# Altium schematic symbol library IC_WSYN.SchLib: 152 symbols (part 1 of 2)
Pins are listed as number, name and electrical type; pins without a type are passive.

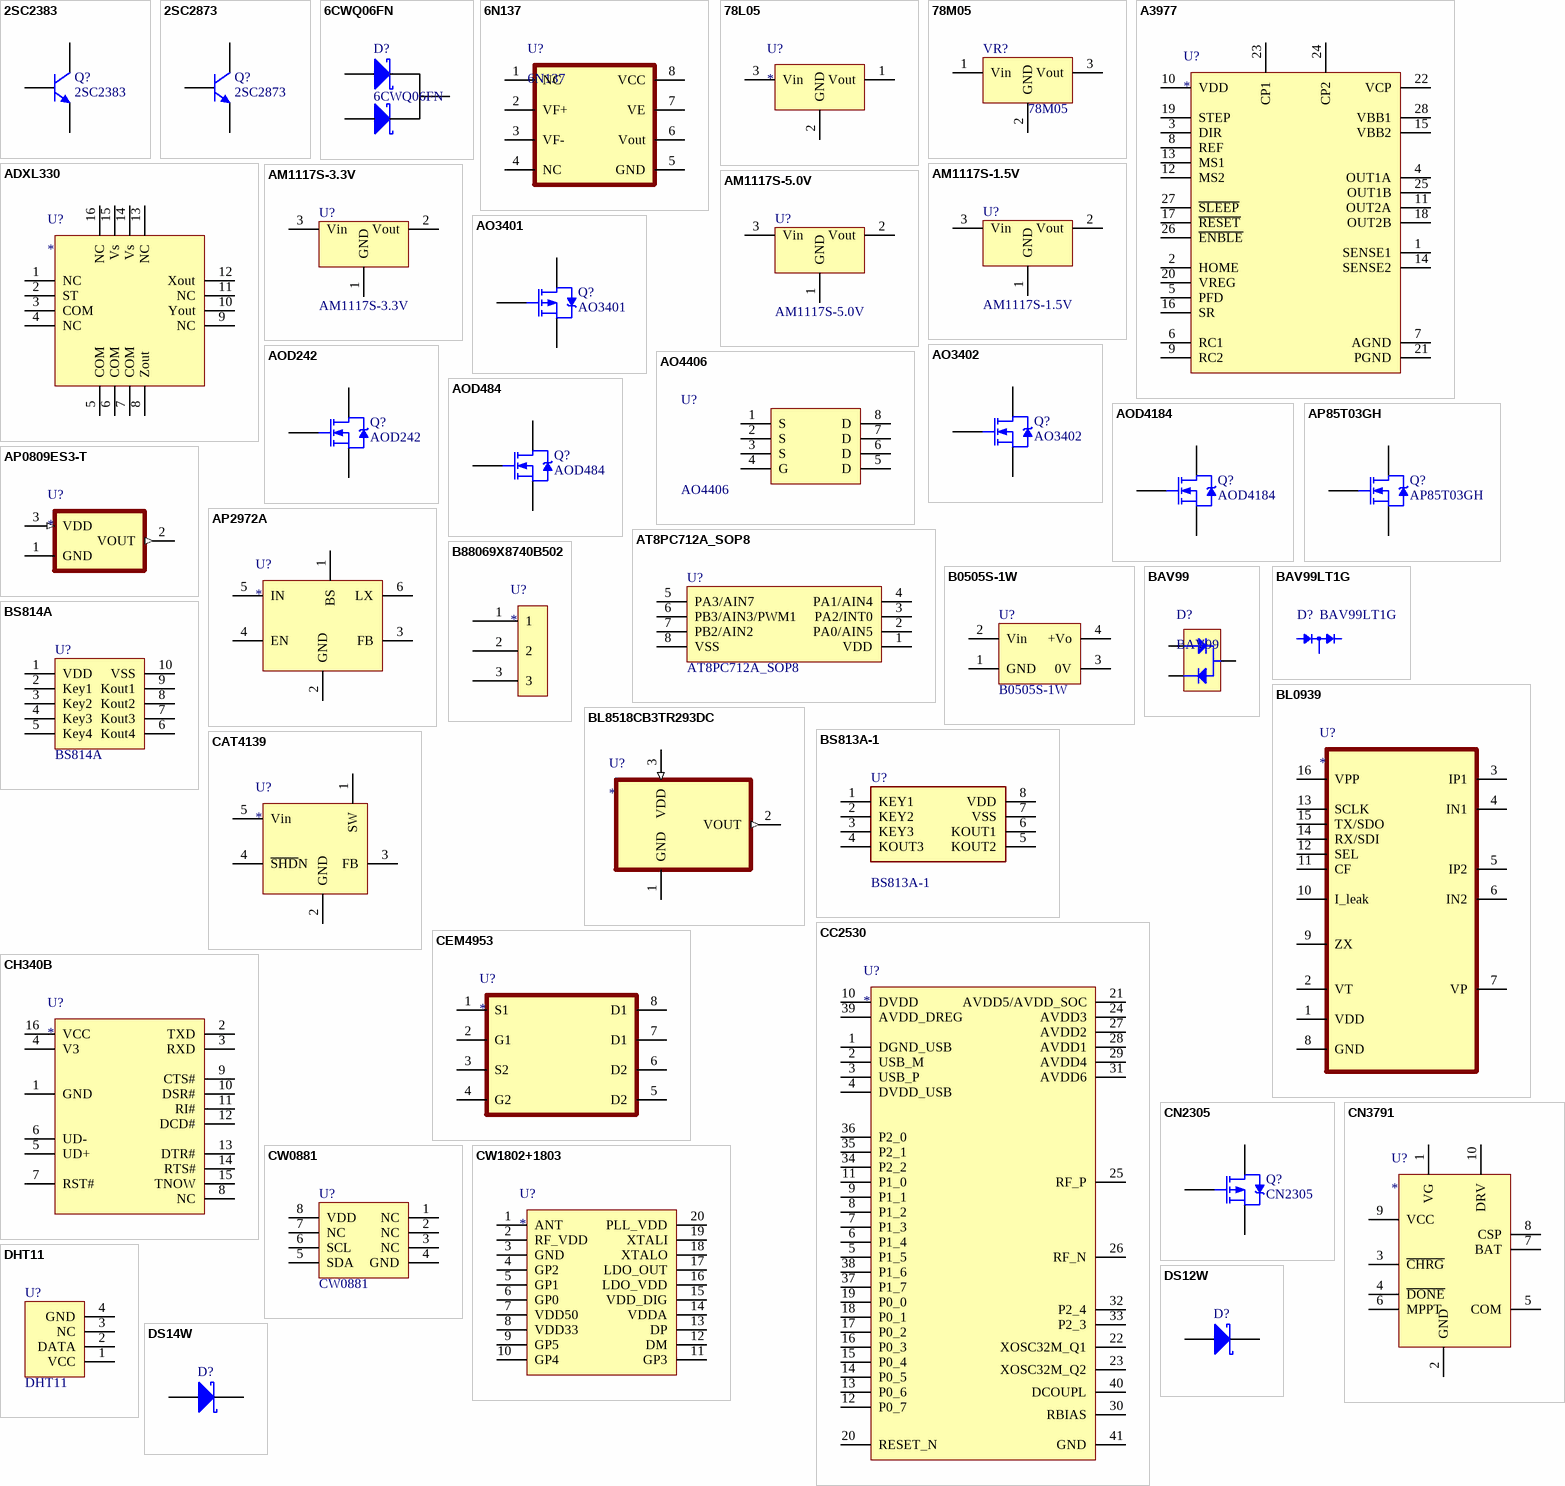
[diagram p0: symbols 2SC2383 to DS14W]

## 2SC2383
designator Q?
footprint SOT-89 (SOT-89; Body 4.6 x 4.25 mm, inc. leads (LxW max))
pins: 1 B, 2 C, 3 E

## 2SC2873
designator Q?
footprint SOT-89 (SOT-89; Body 4.6 x 4.25 mm, inc. leads (LxW max))
pins: 1 B, 2 C, 3 E

## 6CWQ06FN
designator D?
6CWQ06FN,SCHOTTKY RECTIFIER
footprint TO-252AA
pins: 1 A, 2 K, 3 A

## 6N137
designator U?
光耦 高速
footprint 6N137
pins: 1 NC, 2 VF+, 3 VF-, 4 NC, 5 GND, 6 Vout, 7 VE, 8 VCC (power)

## 78L05
designator U?
78L05,三端稳压器; datasheet: http://www.mouser.com/ds/2/389/CD00000446-355303.pdf
footprint SOT-89 (SOT-89; Body 4.6 x 4.25 mm, inc. leads (LxW max))
pins: 1 Vout, 2 GND, 3 Vin

## 78M05
designator VR?
Voltage Regulator
footprint TO-252
pins: 1 Vin, 2 GND, 3 Vout

## A3977
designator U?
Microstepping DMOS Driver with Translator
footprint SOP65P640X120-29N
pins: 1 SENSE1, 2 HOME, 3 DIR, 4 OUT1A, 5 PFD, 6 RC1, 7 AGND, 8 REF, 9 RC2, 10 VDD, 11 OUT2A, 12 MS2, 13 MS1, 14 SENSE2, 15 VBB2, 16 SR, 17 ~{RESET}, 18 OUT2B, 19 STEP, 20 VREG, 21 PGND, 22 VCP, 23 CP1, 24 CP2, 25 OUT1B, 26 ~{ENBLE}, 27 ~{SLEEP}, 28 VBB1

## ADXL330
designator U?
MEMS加速度计
footprint LFCSP-16 (4x4mm) (LFCSP-16 package, Body size 4x4mm, Lead pitch 0.65mm)
pins: 1 NC, 2 ST, 3 COM, 4 NC, 5 COM, 6 COM, 7 COM, 8 Zout, 9 NC, 10 Yout, 11 NC, 12 Xout, 13 NC, 14 Vs, 15 Vs, 16 NC

## AM1117S-1.5V
designator U?
footprint SOT223-4L
pins: 1 GND, 2 Vout, 3 Vin

## AM1117S-3.3V
designator U?
AM1117S-3.3V,SOT223-4L,LDO稳压
footprint SOT223-4L
pins: 1 GND, 2 Vout, 3 Vin

## AM1117S-5.0V
designator U?
footprint SOT223-4L
pins: 1 GND, 2 Vout, 3 Vin

## AO3401
designator Q?
P-Channel Power MOSFET; Note: Pin 4 not drawn and electrically connected to Pin 2.; Published: 8-Jun-2000; LatestRevisionDate: 17-Jul-2002; LatestRevisionNote: Re-released for DXP Platform.; DatasheetVersion: PD-9.390D; PackageVersion: Feb-1997; PackageReference: TO-220AB; Publisher: Altium Limited; PackageDescription: TO, Thru-Hole, Vertical, Heatsink Mounted; 3 In-Line Leads; Pitch 2.54 mm; ComponentLink1Description: Manufacturer Link; ComponentLink1URL: http://www.irf.com/
footprint SOT23
pins: 1 G, 2 S, 3 D

## AO3402
designator Q?
30V N-Channel MOSFET; PackageReference: SOT23; ComponentLink1Description: Manufacturer Link; ComponentLink1URL: http://www.aosmd.com/; ComponentLink2Description: Datasheet; ComponentLink2URL: http://www.aosmd.com/res/data_sheets/AO3402.pdf
footprint SOT23
pins: 1 G, 2 S, 3 D

## AO4406
designator U?
N-Channel?Enhancement?Mode?Field?Effect?Transistor; ComponentLink1URL: http://www.chip-wise.com
footprint SOIC8_N
pins: 1 S, 2 S, 3 S, 4 G, 5 D, 6 D, 7 D, 8 D

## AOD242
designator Q?
40V N-Channel MOSFET; PackageReference: TO-252AA; ComponentLink1Description: Manufacturer Link; ComponentLink1URL: http://aosmd.com/pdfs/datasheet/AOD484.pdf; ComponentLink2Description: Datasheet
footprint TO-252AA
pins: 1 G, 2 D, 3 S

## AOD484
designator Q?
30V N-Channel MOSFET; PackageReference: TO-252AA; ComponentLink1Description: Manufacturer Link; ComponentLink1URL: http://aosmd.com/pdfs/datasheet/AOD484.pdf; ComponentLink2Description: Datasheet
footprint TO-252AA
pins: 1 G, 2 D, 3 S

## AOD4184
designator Q?
40V N-Channel MOSFET; PackageReference: TO-252AA; ComponentLink1Description: Manufacturer Link; ComponentLink1URL: http://aosmd.com/pdfs/datasheet/AOD484.pdf; ComponentLink2Description: Datasheet
footprint TO-252AA
pins: 1 G, 2 D, 3 S

## AP85T03GH
designator Q?
N-CHANNEL?ENHANCEMENT?MODE??Electronics?Corp. POWER?MOSFET; PackageReference: SOT23; ComponentLink1Description: Manufacturer Link; ComponentLink1URL: http://www.a-power.com.tw/index.aspx?lang=sim&fn=product_list_pms&ID=623; ComponentLink2Description: Datasheet
footprint TO-252AA
pins: 1 G, 2 D, 3 S

## AP0809ES3-T
designator U?
复位芯片 5V的MCU应用
footprint SOT23
pins: 1 GND, 2 VOUT (out), 3 VDD (in)

## AP2972A
designator U?
footprint SOT23-6L
pins: 1 BS, 2 GND, 3 FB, 4 EN, 5 IN, 6 LX

## AT8PC712A_SOP8
designator U?
单片机，南翔ATW
footprint SOIC8_N
pins: 1 VDD, 2 PA0/AIN5, 3 PA2/INT0, 4 PA1/AIN4, 5 PA3/AIN7, 6 PB3/AIN3/PWM1, 7 PB2/AIN2, 8 VSS

## B0505S-1W
designator U?
5V转5VDC-DC隔离电源模块
pins: 1 GND, 2 Vin, 3 0V, 4 +Vo

## B88069X8740B502
designator U?
放电管; 制造商: TDK
footprint GDT-H-3
pins: 1, 2, 3

## BAV99
designator D?
footprint SOT23
pins: 1 A, 2 A, 3 K

## BAV99LT1G
designator D?
Diode Array 1 Pair Series Connection Standard 100V 215mA _DC_ Surface Mount TO-236-3, SC-59, SOT-23-3; MF: ON Semiconductor; Availability: Unavailable; SnapEDA_Link: https://www.snapeda.com/parts/BAV99LT1G/ON%20Semiconductor/view-part/88654/?ref=snap; Package: SOT-23 Rochester Electronics; MP: BAV99LT1G; Value: *; Price: None
footprint SOT23
pins: 1 P$1, 2 P$2, 3 P$3

## BL0939
designator U?
电能管理芯片
footprint SO-16 (Small Outline; 16 Leads; Body Width 3.9 mm; Pitch 1.27 mm)
pins: 1 VDD, 2 VT, 3 IP1, 4 IN1, 5 IP2, 6 IN2, 7 VP, 8 GND (power), 9 ZX, 10 I_leak, 11 CF, 12 SEL, 13 SCLK, 14 RX/SDI, 15 TX/SDO, 16 VPP

## BL8518CB3TR293DC
designator U?
复位芯片
footprint SOT23
pins: 1 GND, 2 VOUT (out), 3 VDD (in)

## BS813A-1
designator U?
触控IC
footprint SOIC8_N
pins: 1 KEY1, 2 KEY2, 3 KEY3, 4 KOUT3, 5 KOUT2, 6 KOUT1, 7 VSS, 8 VDD

## BS814A
designator U?
触控IC
footprint MSOP-10
pins: 1 VDD, 2 Key1, 3 Key2, 4 Key3, 5 Key4, 6 Kout4, 7 Kout3, 8 Kout2, 9 Kout1, 10 VSS

## CAT4139
designator U?
22V High Current Boost White LED Driver
footprint SOT23-5_L (SOT23, 5-Leads, Body 2.9x1.6mm, Pitch 0.95mm, Lead Span 2.8mm, IPC High Density)
pins: 1 SW, 2 GND, 3 FB, 4 ~{SHD}N, 5 Vin

## CC2530
designator U?
footprint CC2530
pins: 1 DGND_USB, 2 USB_M, 3 USB_P, 4 DVDD_USB, 5 P1_5, 6 P1_4, 7 P1_3, 8 P1_2, 9 P1_1, 10 DVDD, 11 P1_0, 12 P0_7, 13 P0_6, 14 P0_5, 15 P0_4, 16 P0_3, 17 P0_2, 18 P0_1, 19 P0_0, 20 RESET_N, 21 AVDD5/AVDD_SOC, 22 XOSC32M_Q1, 23 XOSC32M_Q2, 24 AVDD3, 25 RF_P, 26 RF_N, 27 AVDD2, 28 AVDD1, 29 AVDD4, 30 RBIAS, 31 AVDD6, 32 P2_4, 33 P2_3, 34 P2_2, 35 P2_1, 36 P2_0, 37 P1_7, 38 P1_6, 39 AVDD_DREG, 40 DCOUPL, 41 GND

## CEM4953
designator U?
MOS管
footprint SOIC8_N
pins: 1 S1, 2 G1, 3 S2, 4 G2, 5 D2, 6 D2, 7 D1, 8 D1 (power)

## CH340B
designator U?
USB转串口芯片; ComponentLink2URL: http://www.chip-wise.com/; ComponentLink2Description: Datasheet
footprint SO-16 (Small Outline; 16 Leads; Body Width 3.9 mm; Pitch 1.27 mm)
pins: 1 GND, 2 TXD, 3 RXD, 4 V3, 5 UD+, 6 UD-, 7 RST#, 8 NC, 9 CTS#, 10 DSR#, 11 RI#, 12 DCD#, 13 DTR#, 14 RTS#, 15 TNOW, 16 VCC

## CN2305
designator Q?
P-Channel Power MOSFET; Note: Pin 4 not drawn and electrically connected to Pin 2.; Published: 8-Jun-2000; LatestRevisionDate: 17-Jul-2002; LatestRevisionNote: Re-released for DXP Platform.; DatasheetVersion: PD-9.390D; PackageVersion: Feb-1997; PackageReference: TO-220AB; Publisher: Altium Limited; PackageDescription: TO, Thru-Hole, Vertical, Heatsink Mounted; 3 In-Line Leads; Pitch 2.54 mm; ComponentLink1Description: Manufacturer Link; ComponentLink1URL: http://www.irf.com/
footprint SOT23
pins: 1 G, 2 S, 3 D

## CN3791
designator U?
单节锂电池充电管理集成电路
footprint SSOP10
pins: 1 VG, 2 GND, 3 ~{CHRG}, 4 ~{DONE}, 5 COM, 6 MPPT, 7 BAT, 8 CSP, 9 VCC, 10 DRV

## CW0881
designator U?
加密芯片; ComponentLink1URL: http://www.chip-wise.com
footprint SOIC8_N
pins: 1 NC, 2 NC, 3 NC, 4 GND, 5 SDA, 6 SCL, 7 NC, 8 VDD

## CW1802+1803
designator U?
ComponentLink2URL: http://www.chip-wise.com/; ComponentLink2Description: Datasheet
footprint TSSOP20_M (TSOP, 20-Leads, Body 6.5x4.4mm, Pitch 0.65mm, IPC Low Density)
pins: 1 ANT, 2 RF_VDD, 3 GND, 4 GP2, 5 GP1, 6 GP0, 7 VDD50, 8 VDD33, 9 GP5, 10 GP4, 11 GP3, 12 DM, 13 DP, 14 VDDA, 15 VDD_DIG, 16 LDO_VDD, 17 LDO_OUT, 18 XTALO, 19 XTALI, 20 PLL_VDD

## DHT11
designator U?
DHT11,温湿度传感器
footprint DHT11
pins: 1 VCC, 2 DATA, 3 NC, 4 GND

## DS12W
designator D?
肖特基二极管 20V,1A,VF=40uA@40V, Vf =550mV@1A
footprint SOD-123
pins: 1 A, 2 K

## DS14W
designator D?
肖特基二极管 40V,1A,VF=40uA@40V, Vf =550mV@1A
footprint SOD-123
pins: 1 A, 2 K

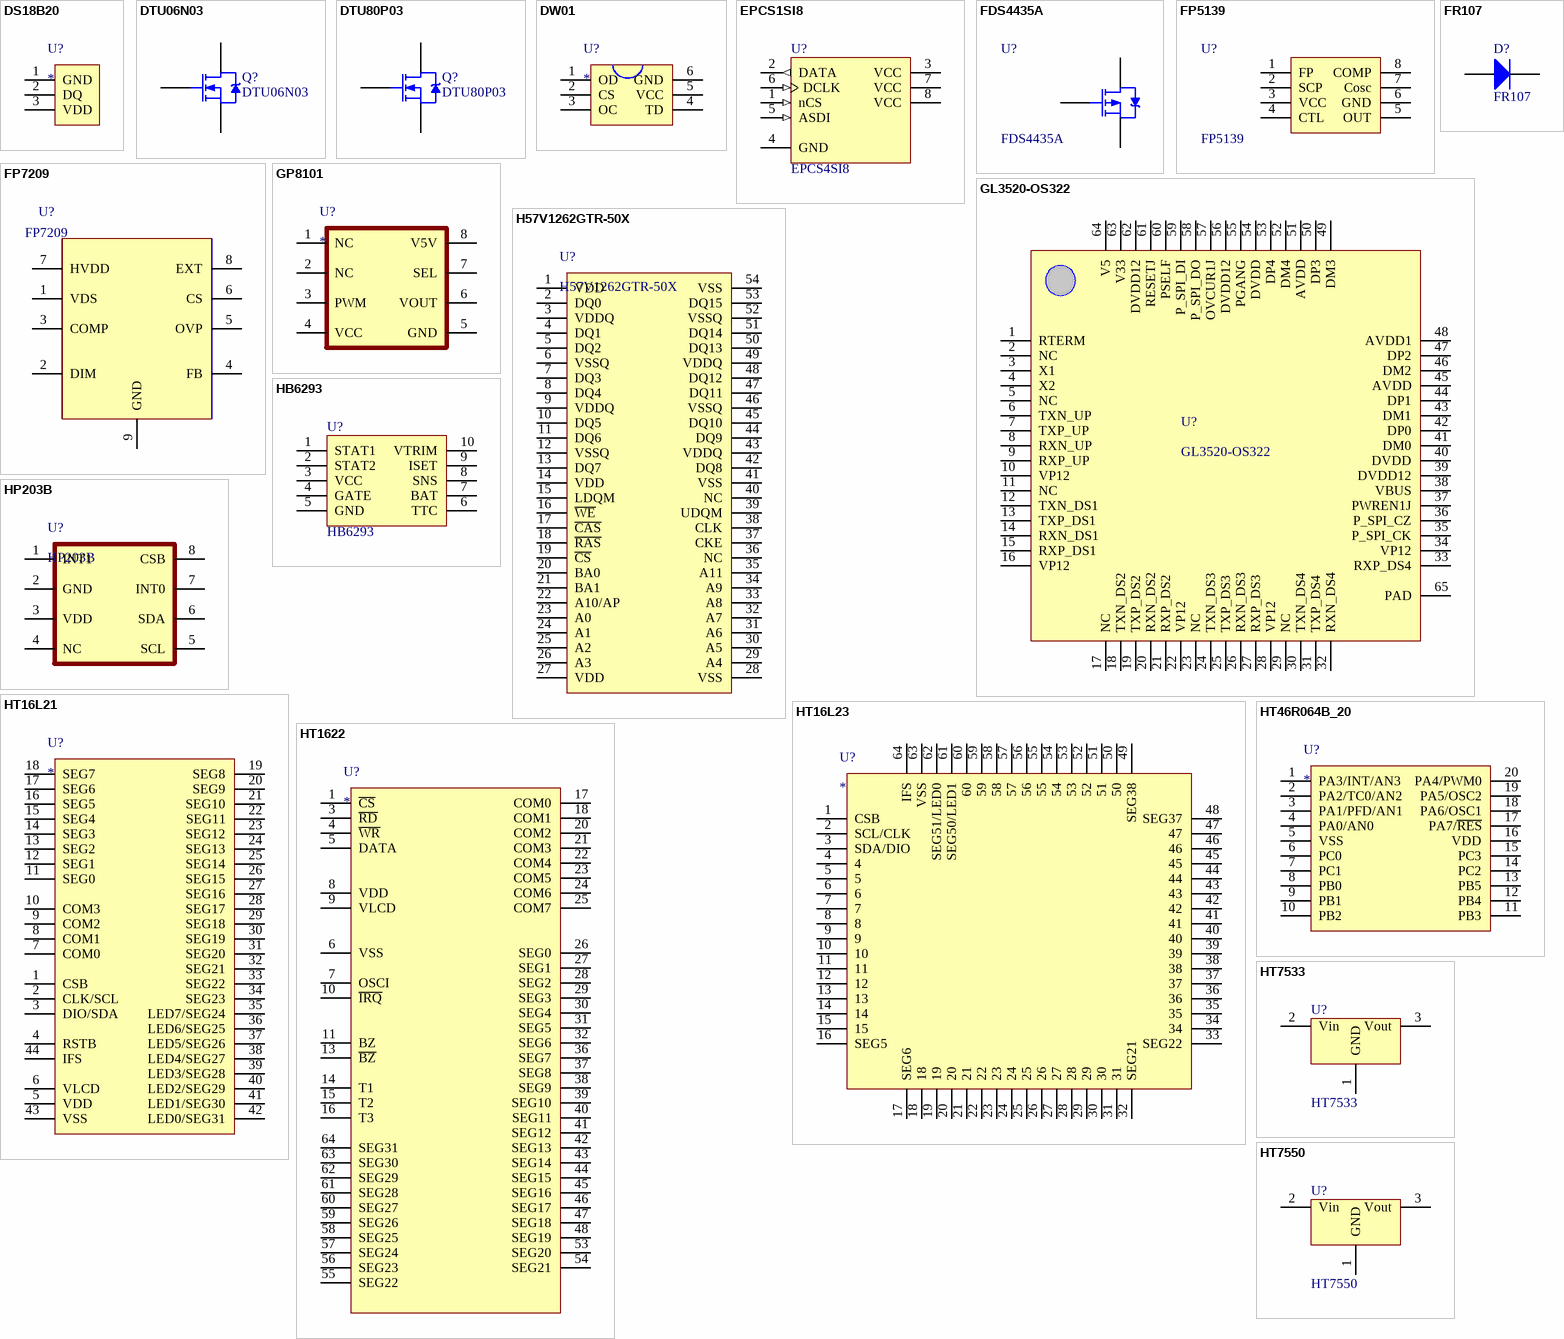
[diagram p1: symbols DS18B20 to HT7550]

## DS18B20
designator U?
温度传感器
footprint DS18B20 (TO, Flat Index; 3 In-Line, Axial Leads; Body Dia. 4.8mm; Leads 0.51 x 0.51 mm (max))
pins: 1 GND, 2 DQ, 3 VDD

## DTU06N03
designator Q?
N-Channel 30-V (D-S) MOSFET; PackageReference: SOT23; ComponentLink1Description: Manufacturer Link; ComponentLink1URL: http://www.din-tek.jp/Upload/Product%20Doc/Datasheet/DTU06N03.pdf; ComponentLink2Description: Datasheet
footprint TO-252AA
pins: 1 G, 2 D, 3 S

## DTU80P03
designator Q?
P-Channel 30 V (D-S) MOSFET; PackageReference: SOT23; ComponentLink1Description: Manufacturer Link; ComponentLink1URL: http://cn.din-tek.jp/; ComponentLink2Description: Datasheet
footprint TO-252AA
pins: 1 G, 2 D, 3 S

## DW01
designator U?
footprint SOT23-6L
pins: 1 OD, 2 CS, 3 OC, 4 TD, 5 VCC, 6 GND

## EPCS1SI8
designator U?, comment EPCS4SI8
EPCS1 Series, In-system programmable 3.3V serial configuration device, 8-Pin SOIC, 1-Megabit, Industrial Grade; Configures: Cyclone II, Stratix II, & Cyclone Devices; Published: 17-Sep-2003; LatestRevisionDate: 13-Apr-2006; LatestRevisionNote: IPC-7351 Footprint Added.; DatasheetVersion: ver2.0, Oct-2003; PackageVersion: ver13.0, May-2005; PackageReference: SOIC8; Publisher: Altium Limited; PackageDescription: 8-Pin Small Outline Integrated Circuit Package (SOIC8); Code_JEDEC: MS-012-AA; Code_IPC: SOIC127P600-8; ComponentLink1Description: Manufacturer Link; ComponentLink1URL: http://www.altera.com/products/devices/config/cfg-index.html; ComponentLink2Description: Configuration Handbook; ComponentLink2URL: http://www.altera.com/literature/hb/cfg/config_handbook.pdf; ComponentLink3Description: Pinout Specification; ComponentLink3URL: http://www.altera.com/literature/hb/cfg/cyc_c51014.pdf; ComponentLink4Description: Packaging Specification; ComponentLink4URL: http://www.altera.com/literature/ds/dspkg.pdf
footprint SOIC8_N (SOIC, 8-Leads, Body 4.9x3.9mm, Pitch 1.27mm, IPC Medium Density)
pins: 1 nCS (in) "Active low, chip select input", 2 DATA (out) "Serial data out", 3 VCC (power) "3.3V supply", 4 GND (power) "Ground", 5 ASDI (in) "AS data in", 6 DCLK (in) "Provides timing of the serial interface", 7 VCC (power) "3.3V supply", 8 VCC (power) "3.3V supply"

## FDS4435A
designator U?
P-Channel Logic Level PowerTrencha MOSFET; ComponentLink1URL: http://www.chip-wise.com
footprint SOIC8_N
pins: 1 S, 2 S, 3 S, 4 G, 5 D, 6 D, 7 D, 8 D

## FP5139
designator U?
BOOST CONVERT CONTROL IC; ComponentLink1URL: http://www.chip-wise.com
footprint TSSOP8 (Shrink Small Outline, Plastic, Thin; 8 Leads; Body Width 4.4 mm; Pitch 0.65 mm)
pins: 1 FP, 2 SCP, 3 VCC, 4 CTL, 5 OUT, 6 GND, 7 Cosc, 8 COMP

## FP7209
designator U?
PCB DECAL: SOP8-PGA; Geometry.Height: 1.35
footprint SOP-8L(EP)
pins: 1 VDS, 2 DIM, 3 COMP, 4 FB, 5 OVP, 6 CS, 7 HVDD, 8 EXT, 9 GND

## FR107
designator D?
快速恢复整流二极管; Published: 8-Jun-2000; LatestRevisionDate: 17-Jul-2002; LatestRevisionNote: Re-released for DXP Platform.; PackageVersion: Sep-1996; PackageReference: SMC; Publisher: Altium Limited; Code_JEDEC: DO-214-AB
footprint SMA
pins: 1 A, 2 K

## GL3520-OS322
designator U?
footprint QFN-64_L8.0-W8.0-P0.40-BL-EP (QFN, 64-Leads, Body 8.00x8.00mm, Pitch 0.40mm, Thermal Pad 5.35x5.35mm, IPC Medium Density)
pins: 1 RTERM, 2 NC, 3 X1, 4 X2, 5 NC, 6 TXN_UP, 7 TXP_UP, 8 RXN_UP, 9 RXP_UP, 10 VP12, 11 NC, 12 TXN_DS1, 13 TXP_DS1, 14 RXN_DS1, 15 RXP_DS1, 16 VP12, 17 NC, 18 TXN_DS2, 19 TXP_DS2, 20 RXN_DS2, 21 RXP_DS2, 22 VP12, 23 NC, 24 TXN_DS3, 25 TXP_DS3, 26 RXN_DS3, 27 RXP_DS3, 28 VP12, 29 NC, 30 TXN_DS4, 31 TXP_DS4, 32 RXN_DS4, 33 RXP_DS4, 34 VP12, 35 P_SPI_CK, 36 P_SPI_CZ, 37 PWREN1J, 38 VBUS, 39 DVDD12, 40 DVDD, 41 DM0, 42 DP0, 43 DM1, 44 DP1, 45 AVDD, 46 DM2, 47 DP2, 48 AVDD1, 49 DM3, 50 DP3, 51 AVDD, 52 DM4, 53 DP4, 54 DVDD, 55 PGANG, 56 DVDD12, 57 OVCUR1J, 58 P_SPI_DO, 59 P_SPI_DI, 60 PSELF, 61 RESETJ, 62 DVDD12, 63 V33, 64 V5, 65 PAD

## GP8101
designator U?
PAC,0%-100% PWM 转 0-5V/0-10V
footprint SOIC8_N
pins: 1 NC, 2 NC, 3 PWM, 4 VCC, 5 GND, 6 VOUT, 7 SEL, 8 V5V (power)

## H57V1262GTR-50X
designator U?
Synchronous DRAM Memory 128Mbit (8Mx16bit)
pins: 1 VDD, 2 DQ0, 3 VDDQ, 4 DQ1, 5 DQ2, 6 VSSQ, 7 DQ3, 8 DQ4, 9 VDDQ, 10 DQ5, 11 DQ6, 12 VSSQ, 13 DQ7, 14 VDD, 15 LDQM, 16 ~{WE}, 17 ~{CAS}, 18 ~{RAS}, 19 ~{CS}, 20 BA0, 21 BA1, 22 A10/AP, 23 A0, 24 A1, 25 A2, 26 A3, 27 VDD, 28 VSS, 29 A4, 30 A5, 31 A6, 32 A7, 33 A8, 34 A9, 35 A11, 36 NC, 37 CKE, 38 CLK, 39 UDQM, 40 NC, 41 VSS, 42 DQ8, 43 VDDQ, 44 DQ9, 45 DQ10, 46 VSSQ, 47 DQ11, 48 DQ12, 49 VDDQ, 50 DQ13, 51 DQ14, 52 VSSQ, 53 DQ15, 54 VSS

## HB6293
designator U?
7.4V锂电池充电IC
footprint MSOP-10
pins: 1 STAT1, 2 STAT2, 3 VCC, 4 GATE, 5 GND, 6 TTC, 7 BAT, 8 SNS, 9 ISET, 10 VTRIM

## HP203B
designator U?
HP203B 气压传感器 内置MEMS 压力传感器，压力和温度传感器
footprint QFN-8_HP203B
pins: 1 INT1, 2 GND, 3 VDD, 4 NC, 5 SCL, 6 SDA, 7 INT0, 8 CSB (power)

## HT16L21
designator U?
footprint LQFP44
pins: 1 CSB, 2 CLK/SCL, 3 DIO/SDA, 4 RSTB, 5 VDD, 6 VLCD, 7 COM0, 8 COM1, 9 COM2, 10 COM3, 11 SEG0, 12 SEG1, 13 SEG2, 14 SEG3, 15 SEG4, 16 SEG5, 17 SEG6, 18 SEG7, 19 SEG8, 20 SEG9, 21 SEG10, 22 SEG11, 23 SEG12, 24 SEG13, 25 SEG14, 26 SEG15, 27 SEG16, 28 SEG17, 29 SEG18, 30 SEG19, 31 SEG20, 32 SEG21, 33 SEG22, 34 SEG23, 35 LED7/SEG24, 36 LED6/SEG25, 37 LED5/SEG26, 38 LED4/SEG27, 39 LED3/SEG28, 40 LED2/SEG29, 41 LED1/SEG30, 42 LED0/SEG31, 43 VSS, 44 IFS

## HT16L23
designator U?
HT16L23,64 LQFP-A
pins: 1 CSB, 2 SCL/CLK, 3 SDA/DIO, 4, 5, 6, 7, 8, 9, 10, 11, 12, 13, 14, 15, 16 SEG5, 17 SEG6, 18, 19, 20, 21, 22, 23, 24, 25, 26, 27, 28, 29, 30, 31, 32 SEG21, 33 SEG22, 34, 35, 36, 37, 38, 39, 40, 41, 42, 43, 44, 45, 46, 47, 48 SEG37, 49 SEG38, 50, 51, 52, 53, 54, 55, 56, 57, 58, 59, 60, 61 SEG50/LED1, 62 SEG51/LED0, 63 VSS, 64 IFS

## HT46R064B_20
designator U?
HT46R064B_20
footprint SSO-G20/P.65
pins: 1 PA3/INT/AN3, 2 PA2/TC0/AN2, 3 PA1/PFD/AN1, 4 PA0/AN0, 5 VSS, 6 PC0, 7 PC1, 8 PB0, 9 PB1, 10 PB2, 11 PB3, 12 PB4, 13 PB5, 14 PC2, 15 PC3, 16 VDD, 17 PA7/~{RES}, 18 PA6/OSC1, 19 PA5/OSC2, 20 PA4/PWM0

## HT1622
designator U?
HT1622,TSQFP64,段码液晶驱动器
footprint TSQFP40P900X900X160-64N (TSQFP, 64-Leads, Body 7.00x7.00mm, Pitch 0.40mm, IPC Medium Density)
pins: 1 ~{CS}, 3 ~{RD}, 4 ~{WR}, 5 DATA, 6 VSS, 7 OSCI, 8 VDD, 9 VLCD, 10 ~{IRQ}, 11 BZ, 13 ~{BZ}, 14 T1, 15 T2, 16 T3, 17 COM0, 18 COM1, 20 COM2, 21 COM3, 22 COM4, 23  COM5, 24 COM6, 25 COM7, 26 SEG0, 27 SEG1, 28 SEG2, 29 SEG3, 30 SEG4, 31 SEG5, 32 SEG6, 36 SEG7, 37 SEG8, 38 SEG9, 39 SEG10, 40 SEG11, 41 SEG12, 42 SEG13, 43 SEG14, 44 SEG15, 45 SEG16, 46 SEG17, 47 SEG18, 48 SEG19, 53 SEG20, 54 SEG21, 55 SEG22, 56 SEG23, 57 SEG24, 58 SEG25, 59 SEG26, 60 SEG27, 61 SEG28, 62 SEG29, 63 SEG30, 64 SEG31

## HT7533
designator U?
footprint SOT-89 (SOT-89; Body 4.6 x 4.25 mm, inc. leads (LxW max))
pins: 1 GND, 2 Vin, 3 Vout

## HT7550
designator U?
High Driver Regulator
footprint SOT-89 (SOT-89; Body 4.6 x 4.25 mm, inc. leads (LxW max))
pins: 1 GND, 2 Vin, 3 Vout

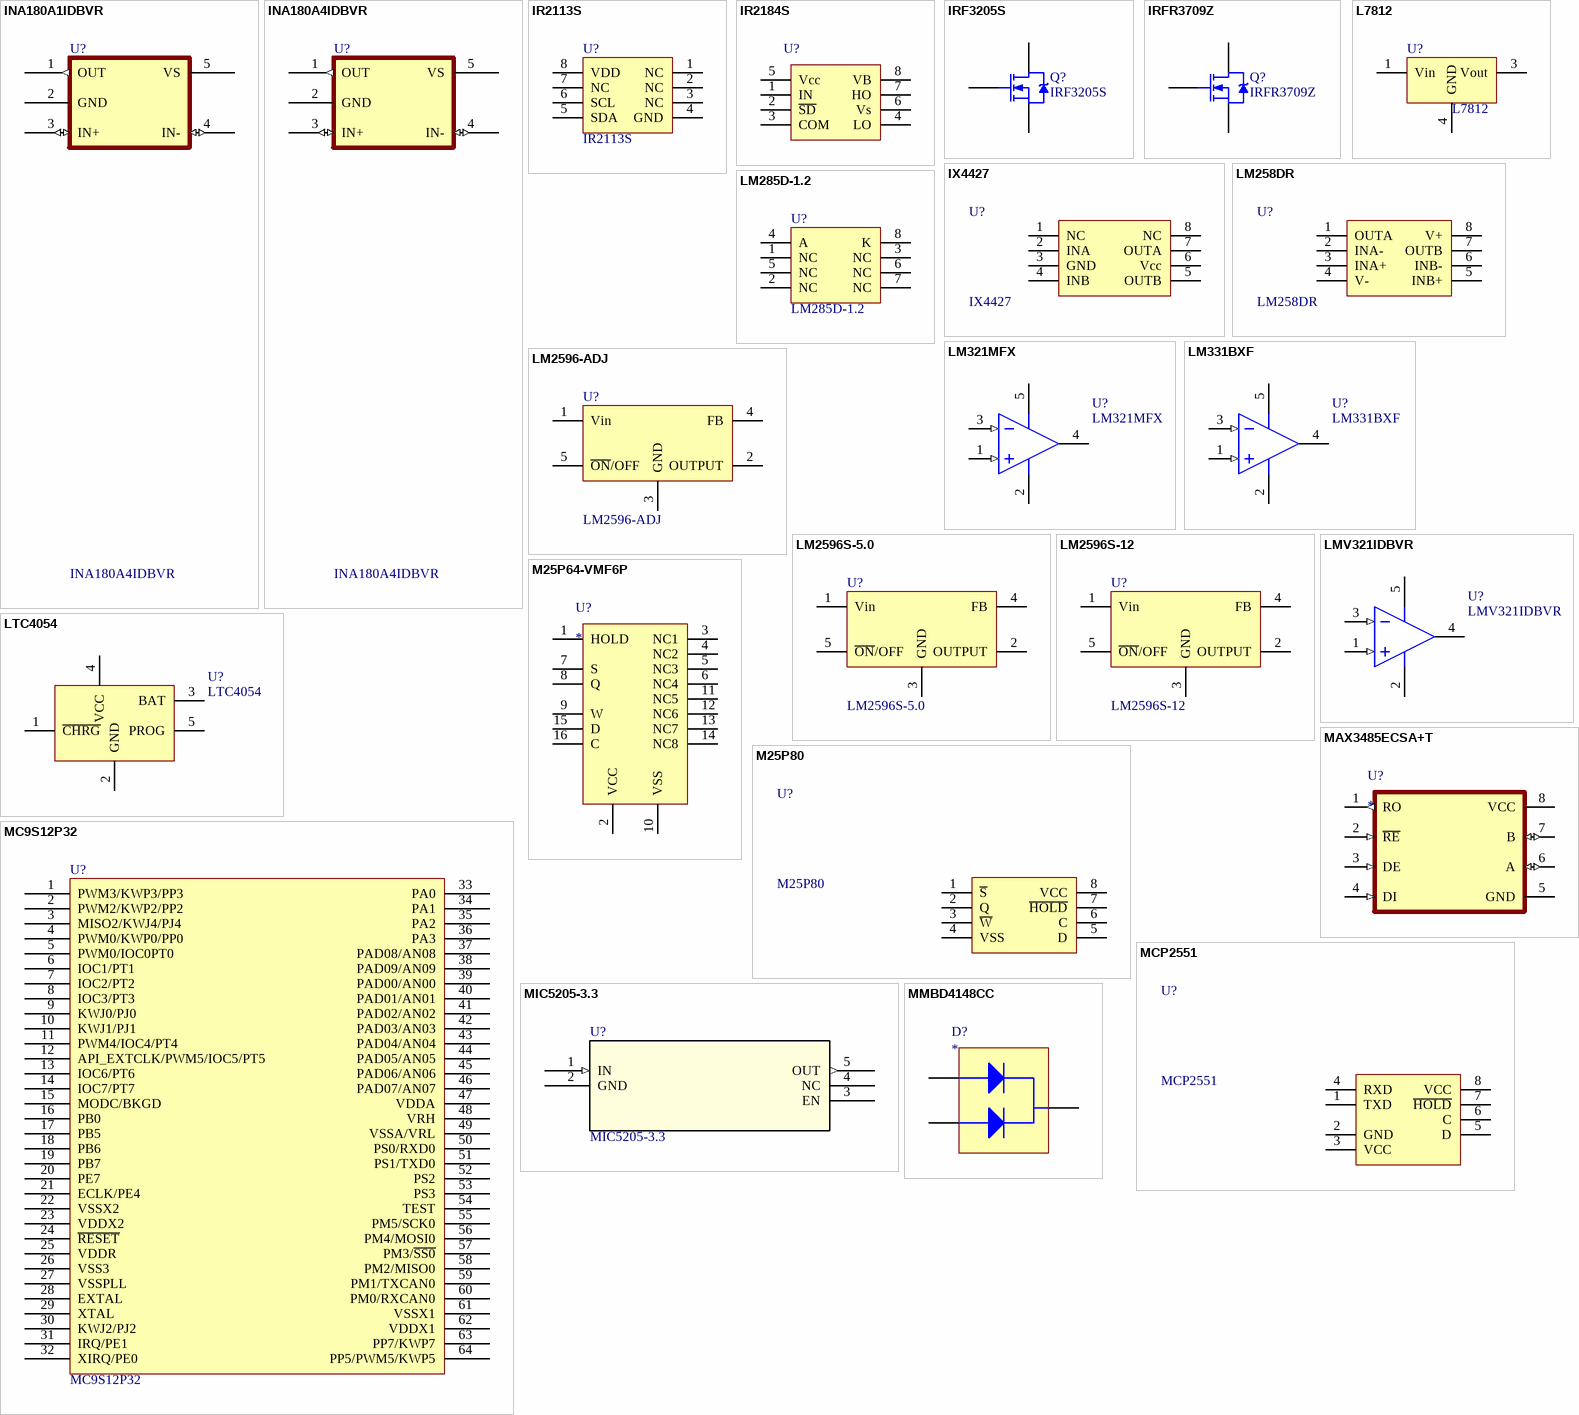
[diagram p2: symbols INA180A1IDBVR to MMBD4148CC]

## INA180A1IDBVR
designator U?, comment INA180A4IDBVR
电流感应放大器,增益20V/V; Published: 30-May-2008; DatasheetVersion: rev6, Mar-2008; PackageVersion: Mar-2008; PackageReference: LQFP48; Publisher: Altium Limited; PackageDescription: 48-Pin Low-Profile Quad Flat Pack, 7 x 7 mm Body, 0.5 mm Pitch (LQFP48); ComponentLink1Description: Manufacturer Link; ComponentLink1URL: www.st.com/stm32; ComponentLink2Description: Datasheet; ComponentLink2URL: http://www.st.com/stonline/products/literature/ds/13587.pdf
footprint SOT23-5_L (SOT23, 5-Leads, Body 2.9x1.6mm, Pitch 0.95mm, Lead Span 2.8mm, IPC High Density)
pins: 1 OUT (out), 2 GND (power), 3 IN+ (io), 4 IN- (io), 5 VS (power)

## INA180A4IDBVR
designator U?
电流感应放大器; Published: 30-May-2008; DatasheetVersion: rev6, Mar-2008; PackageVersion: Mar-2008; PackageReference: LQFP48; Publisher: Altium Limited; PackageDescription: 48-Pin Low-Profile Quad Flat Pack, 7 x 7 mm Body, 0.5 mm Pitch (LQFP48); ComponentLink1Description: Manufacturer Link; ComponentLink1URL: www.st.com/stm32; ComponentLink2Description: Datasheet; ComponentLink2URL: http://www.st.com/stonline/products/literature/ds/13587.pdf
footprint SOT23-5_L (SOT23, 5-Leads, Body 2.9x1.6mm, Pitch 0.95mm, Lead Span 2.8mm, IPC High Density)
pins: 1 OUT (out), 2 GND (power), 3 IN+ (io), 4 IN- (io), 5 VS (power)

## IR2113S
designator U?
加密芯片; ComponentLink1URL: http://www.chip-wise.com
footprint SOP16
pins: 1 NC, 2 NC, 3 NC, 4 GND, 5 SDA, 6 SCL, 7 NC, 8 VDD

## IR2184S
designator U?  (value not drawn)
footprint SOIC8_N
pins: 1 IN, 2 ~{SD}, 3 COM, 4 LO, 5 Vcc, 6 Vs, 7 HO, 8 VB

## IRF3205S
designator Q?
HEXFET Power MOSFET; Published: 8-Jun-2000; LatestRevisionDate: 20-Nov-2009; LatestRevisionNote: IPC-7351 Footprint Added.; DatasheetVersion: Aug-1997; PackageReference: D2PAK; Publisher: Altium Limited; PackageDescription: 3-Pin Transistor Outline Package 2.54 mm Pitch, 15.1 mm Lead Span; ComponentLink1Description: Manufacturer Link; ComponentLink1URL: http://www.irf.com/; ComponentLink2Description: Datasheet; ComponentLink2URL: http://www.irf.com/product-info/datasheets/data/irf3205s.pdf
footprint D2PAK_N (D2-PAK, 4-Leads, Body 8.8x10.4mm, Pitch 2.54mm, Lead Span 15.1mm, IPC Medium Density)
footprint D2PAK_L (D2-PAK, 4-Leads, Body 8.8x10.4mm, Pitch 2.54mm, Lead Span 15.1mm, IPC High Density)
footprint D2PAK_M (D2-PAK, 4-Leads, Body 8.8x10.4mm, Pitch 2.54mm, Lead Span 15.1mm, IPC Low Density)
simulation model IRF3205S (SUBCKT)
pins: 1 G, 2 D, 3 S

## IRFR3709Z
designator Q?
HEXFET  Power MOSFET; PackageReference: TO-252AA; ComponentLink1Description: Manufacturer Link; ComponentLink1URL: http://www.infineon.com/dgdl/irfr3709zpbf.pdf?fileId=5546d462533600a401535631a47a20c5; ComponentLink2Description: Datasheet
footprint TO-252AA
pins: 1 G, 2 D, 3 S

## IX4427
designator U?
1.5-Ampere Dual Low-Side  Ultrafast MOSFET Drivers; ComponentLink1URL: http://www.chip-wise.com
footprint SOIC8_N
pins: 1 NC, 2 INA, 3 GND, 4 INB, 5 OUTB, 6 Vcc, 7 OUTA, 8 NC

## L7812
designator U?
正电压三端稳压器
footprint DDPAK-EB3_N (D2-PAK, 4-Leads, Body 9x10.2mm, Pitch 2.54mm, Lead Span 14.9mm, IPC Medium Density)
pins: 1 Vin, 3 Vout, 4 GND

## LM258DR
designator U?
Dual, 30-V, 700-kHz operational amplifier with -25°C to 85°C operation; ComponentLink1URL: http://www.chip-wise.com
footprint SOIC8_N
pins: 1 OUTA, 2 INA-, 3 INA+, 4 V-, 5 INB+, 6 INB-, 7 OUTB, 8 V+

## LM285D-1.2
designator U?
MicroPower Voltage Reference Diode; Published: 15-Apr-2002; LatestRevisionDate: 13-Apr-2006; LatestRevisionNote: IPC-7351 Footprint Added.; DatasheetVersion: 1996; PackageVersion: 1998; PackageReference: 751-05; Publisher: Altium Limited; PackageDescription: 8-Pin Small Outline Integrated Circuit 1.27 mm Pitch; Code_JEDEC: MS-012-AA; Code_IPC: SOIC127P600-8; ComponentLink1Description: Manufacturer Link; ComponentLink1URL: http://www.onsemi.com/site/products/taxonomy/0,4438,503,00.html; ComponentLink2Description: Datasheet; ComponentLink2URL: http://www.onsemi.com/pub/Collateral/LM285-D.PDF
footprint SOIC8_N
pins: 1 NC, 2 NC, 3 NC, 4 A (power), 5 NC, 6 NC, 7 NC, 8 K (power)

## LM321MFX
designator U?
Published: 17-Jul-2002; LatestRevisionDate: 13-Apr-2006; LatestRevisionNote: IPC-7351 Footprint Added.; DatasheetVersion: 1988; PackageVersion: 1991; PackageReference: 751A-02; Publisher: Altium Limited; PackageDescription: 14-Pin Small Outline Integrated Circuit 1.27 mm Pitch; Code_IPC: SOIC127P600-14; ComponentLink1Description: Manufacturer Link; ComponentLink1URL: http://www.onsemi.com/site/products/taxonomy/0,4438,133,00.html
3D model 751A-02 (14-Pin Small Outline Integrated Circuit 1.27 mm Pitch)
footprint SOT23-5_L (SOT23, 5-Leads, Body 2.9x1.6mm, Pitch 0.95mm, Lead Span 2.8mm, IPC High Density)
pins: 1 IN+ (in), 2 GND (power), 3 IN- (in), 4 OUT (oc), 5 V+ (power)

## LM331BXF
designator U?
通用高压漏极开路输出单个比较器; Published: 17-Jul-2002; LatestRevisionDate: 13-Apr-2006; LatestRevisionNote: IPC-7351 Footprint Added.; DatasheetVersion: 1988; PackageVersion: 1991; PackageReference: 751A-02; Publisher: Altium Limited; PackageDescription: 14-Pin Small Outline Integrated Circuit 1.27 mm Pitch; Code_IPC: SOIC127P600-14; ComponentLink1Description: Manufacturer Link; ComponentLink1URL: http://www.onsemi.com/site/products/taxonomy/0,4438,133,00.html
3D model 751A-02 (14-Pin Small Outline Integrated Circuit 1.27 mm Pitch)
footprint SOT23-5_L (SOT23, 5-Leads, Body 2.9x1.6mm, Pitch 0.95mm, Lead Span 2.8mm, IPC High Density)
pins: 1 IN+ (in), 2 GND (power), 3 IN- (in), 4 OUT (oc), 5 V+ (power)

## LM2596-ADJ
designator U?
SIMPLE SWITCHER? Power Converter 150kHz 3A Step-Down Voltage Regulator
footprint TO-263-5L
pins: 1 Vin, 2 OUTPUT, 3 GND, 4 FB, 5 ~{ON}/OFF

## LM2596S-5.0
designator U?
SIMPLE SWITCHER? Power Converter 150kHz 3A Step-Down Voltage Regulator
footprint TO-263-5L
pins: 1 Vin, 2 OUTPUT, 3 GND, 4 FB, 5 ~{ON}/OFF

## LM2596S-12
designator U?
SIMPLE SWITCHER? Power Converter 150kHz 3A Step-Down Voltage Regulator
footprint TO-263-5L
pins: 1 Vin, 2 OUTPUT, 3 GND, 4 FB, 5 ~{ON}/OFF

## LMV321IDBVR
designator U?
放大器组数：1 输入偏置电流(Ib)：15nA 增益带宽积(GBP)：1MHz 压摆率(SR)：1V/us 轨到轨：轨到轨 LMV321 单路低电压轨至轨输出运算放大器 – 升级版本请参阅 LMV321A; Published: 17-Jul-2002; LatestRevisionDate: 13-Apr-2006; LatestRevisionNote: IPC-7351 Footprint Added.; DatasheetVersion: 1988; PackageVersion: 1991; PackageReference: 751A-02; Publisher: Altium Limited; PackageDescription: 14-Pin Small Outline Integrated Circuit 1.27 mm Pitch; Code_IPC: SOIC127P600-14; ComponentLink1Description: Manufacturer Link; ComponentLink1URL: http://www.onsemi.com/site/products/taxonomy/0,4438,133,00.html
3D model 751A-02 (14-Pin Small Outline Integrated Circuit 1.27 mm Pitch)
footprint SOT23-5_L (SOT23, 5-Leads, Body 2.9x1.6mm, Pitch 0.95mm, Lead Span 2.8mm, IPC High Density)
pins: 1 IN+ (in), 2 GND (power), 3 IN- (in), 4 OUT (oc), 5 V+ (power)

## LTC4054
designator U?
footprint SOT23-5_L (SOT23, 5-Leads, Body 2.9x1.6mm, Pitch 0.95mm, Lead Span 2.8mm, IPC High Density)
pins: 1 ~{CHRG}, 2 GND, 3 BAT, 4 VCC, 5 PROG

## M25P64-VMF6P
designator U?
footprint SO16W_M (SOIC, 16-Leads, Body 10.3x7.5mm, Pitch 1.27mm, IPC Low Density)
pins: 1 HOLD, 2 VCC, 3 NC1, 4 NC2, 5 NC3, 6 NC4, 7 S, 8 Q, 9 W, 10 VSS, 11 NC5, 12 NC6, 13 NC7, 14 NC8, 15 D, 16 C

## M25P80
designator U?
存储芯片
footprint SOIC8_N
pins: 1 ~{S}, 2 Q, 3 ~{W}, 4 VSS, 5 D, 6 C, 7 ~{HOLD}, 8 VCC

## MAX3485ECSA+T
designator U?
1/1 Transceiver Half RS422, RS485 8-SOIC; MP: MAX3485ECSA+T; MF: Maxim Integrated; Price: None; SnapEDA_Link: https://www.snapeda.com/parts/MAX3485ECSA%2BT/Maxim%20Integrated/view-part/1226684/?ref=snap; Availability: Unavailable; Value: *; Package: SOIC-8 Maxim
footprint SOIC127P600X175-8N
pins: 1 RO (out), 2 ~{RE} (in), 3 DE (in), 4 DI (in), 5 GND (power), 6 A (io), 7 B (io), 8 VCC (power)

## MC9S12P32
designator U?
飞思卡尔单片机
footprint LQFP64_10X10X05P
pins: 1 PWM3/KWP3/PP3, 2 PWM2/KWP2/PP2, 3 MISO2/KWJ4/PJ4, 4 PWM0/KWP0/PP0, 5 PWM0/IOC0PT0, 6 IOC1/PT1, 7 IOC2/PT2, 8 IOC3/PT3, 9 KWJ0/PJ0, 10 KWJ1/PJ1, 11 PWM4/IOC4/PT4, 12 API_EXTCLK/PWM5/IOC5/PT5, 13 IOC6/PT6, 14 IOC7/PT7, 15 MODC/BKGD, 16 PB0, 17 PB5, 18 PB6, 19 PB7, 20 PE7, 21 ECLK/PE4, 22 VSSX2, 23 VDDX2, 24 ~{RESET}, 25 VDDR, 26 VSS3, 27 VSSPLL, 28 EXTAL, 29 XTAL, 30 KWJ2/PJ2, 31 IRQ/PE1, 32 XIRQ/PE0, 33 PA0, 34 PA1, 35 PA2, 36 PA3, 37 PAD08/AN08, 38 PAD09/AN09, 39 PAD00/AN00, 40 PAD01/AN01, 41 PAD02/AN02, 42 PAD03/AN03, 43 PAD04/AN04, 44 PAD05/AN05, 45 PAD06/AN06, 46 PAD07/AN07, 47 VDDA, 48 VRH, 49 VSSA/VRL, 50 PS0/RXD0, 51 PS1/TXD0, 52 PS2, 53 PS3, 54 TEST, 55 PM5/SCK0, 56 PM4/MOSI0, 57 PM3/~{SS0}, 58 PM2/MISO0, 59 PM1/TXCAN0, 60 PM0/RXCAN0, 61 VSSX1, 62 VDDX1, 63 PP7/KWP7, 64 PP5/PWM5/KWP5

## MCP2551
designator U?
footprint SOIC8_N
pins: 1 TXD, 2 GND, 3 VCC, 4 RXD, 5 D, 6 C, 7 ~{HOLD}, 8 VCC

## MIC5205-3.3
designator U?
低压差稳压器; Manufacturer_Part_Number: tlv70012_dck_5; GENERIC_PART_NUMBER: TLV70012; Vendor: Texas Instruments; PACKAGE_DESIGNATOR: DCK; PIN_COUNT: 5; FAMILY_NAME: SINGLE CHANNEL LDO; INDUSTRY_STD_PKG_TYPE: SC70; Datasheet URL: http://www.ti.com/lit/gpn/TLV70012; Manufacturer: Texas Instruments; RefDes: RefDes; Type: DEV; Value: Value
footprint SOT23-5_L (SOT23, 5-Leads, Body 2.9x1.6mm, Pitch 0.95mm, Lead Span 2.8mm, IPC High Density)
pins: 1 IN (in), 2 GND (power), 3 EN, 4 NC, 5 OUT (out)

## MMBD4148CC
designator D?
footprint SOT23
pins: 1 A, 2 A, 3 K

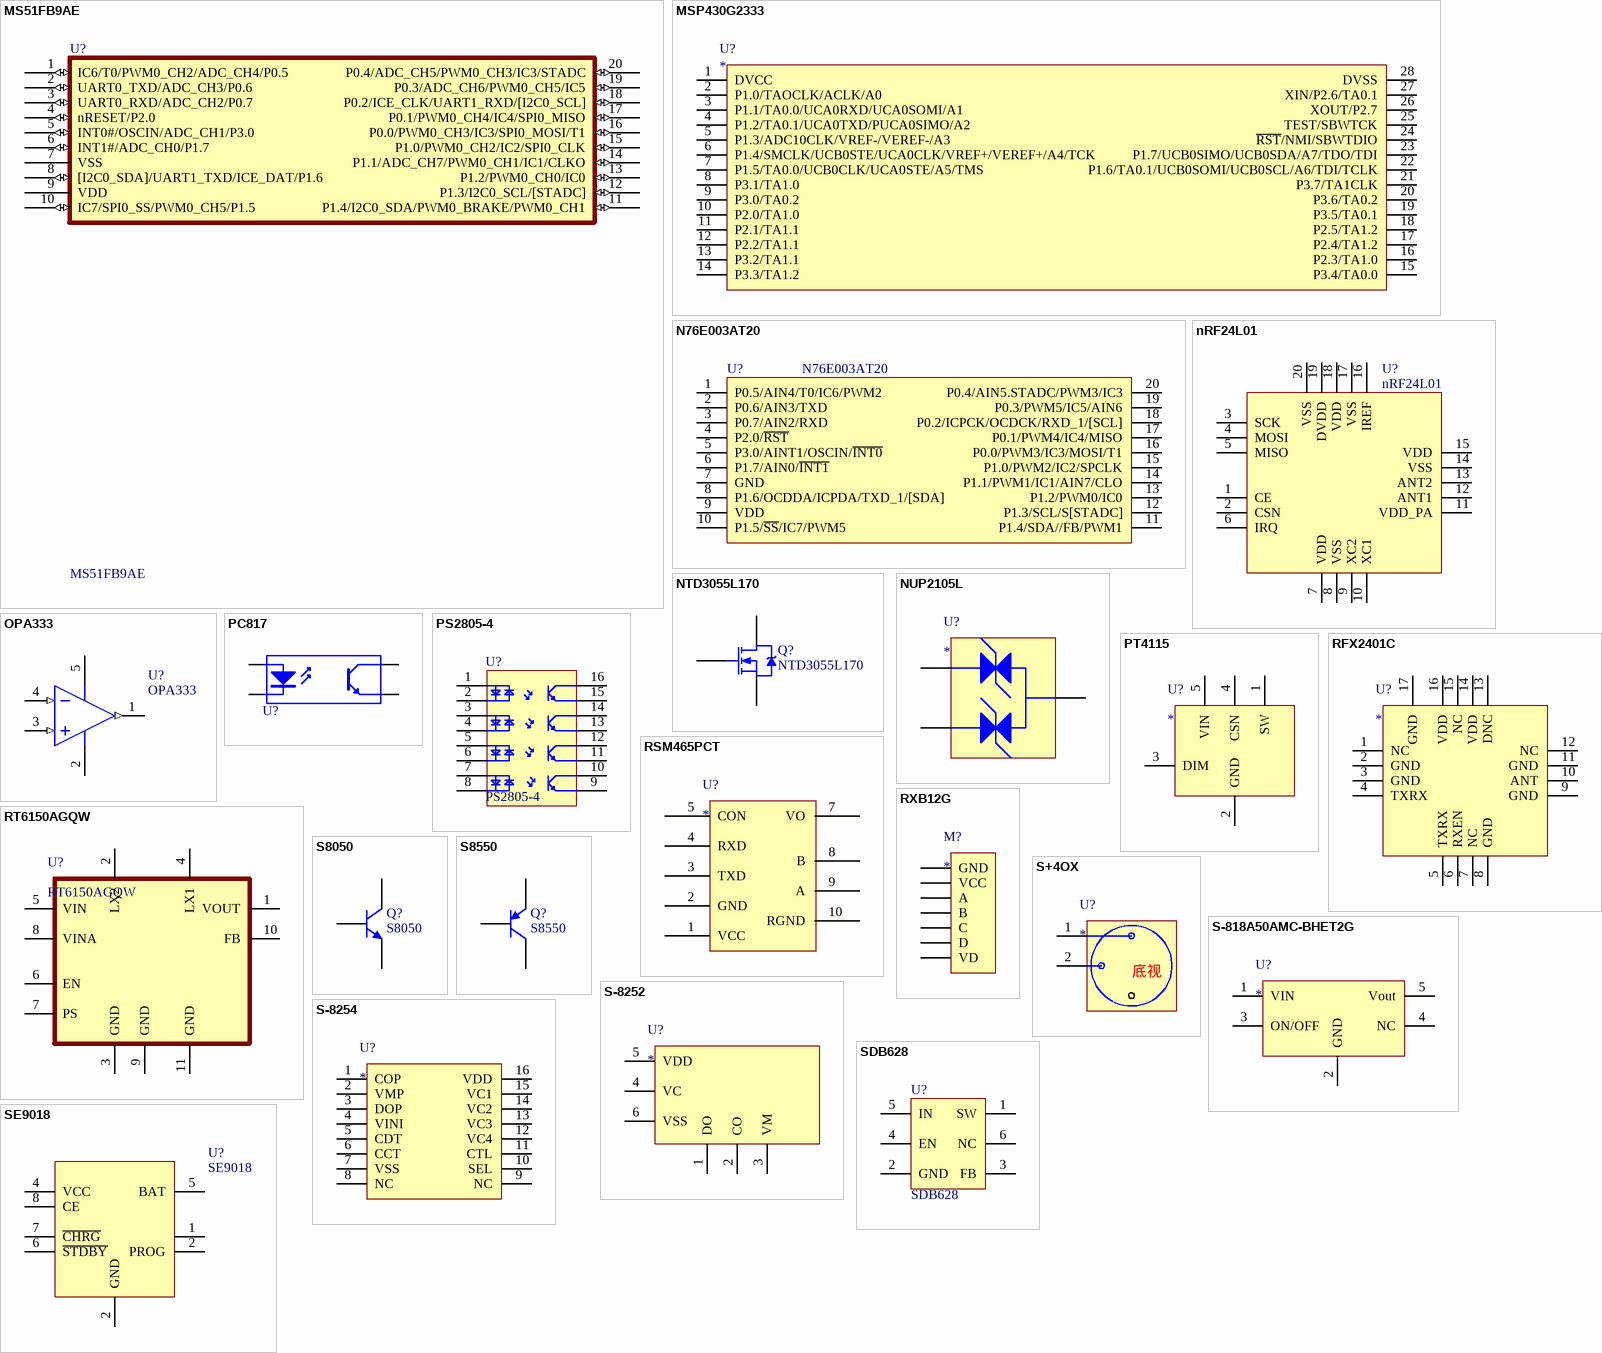
[diagram p3: symbols MS51FB9AE to SE9018]

## MS51FB9AE
designator U?
CPU内核：51系列 程序存储容量：16KB 程序存储器类型：FLASH RAM总容量：1.25KB GPIO端口数量：18; Published: 30-May-2008; DatasheetVersion: rev6, Mar-2008; PackageVersion: Mar-2008; PackageReference: LQFP48; Publisher: Altium Limited; PackageDescription: 48-Pin Low-Profile Quad Flat Pack, 7 x 7 mm Body, 0.5 mm Pitch (LQFP48); ComponentLink1Description: Manufacturer Link; ComponentLink1URL: www.st.com/stm32; ComponentLink2Description: Datasheet; ComponentLink2URL: http://www.st.com/stonline/products/literature/ds/13587.pdf
footprint TSSOP20_M (TSOP, 20-Leads, Body 6.5x4.4mm, Pitch 0.65mm, IPC Low Density)
pins: 1 IC6/T0/PWM0_CH2/ADC_CH4/P0.5 (io), 2 UART0_TXD/ADC_CH3/P0.6 (io), 3 UART0_RXD/ADC_CH2/P0.7 (io), 4 nRESET/P2.0 (io), 5 INT0#/OSCIN/ADC_CH1/P3.0 (io), 6 INT1#/ADC_CH0/P1.7 (io), 7 VSS (power), 8 [I2C0_SDA]/UART1_TXD/ICE_DAT/P1.6 (io), 9 VDD (power), 10 IC7/SPI0_SS/PWM0_CH5/P1.5 (io), 11 P1.4/I2C0_SDA/PWM0_BRAKE/PWM0_CH1 (io), 12 P1.3/I2C0_SCL/[STADC] (io), 13 P1.2/PWM0_CH0/IC0 (io), 14 P1.1/ADC_CH7/PWM0_CH1/IC1/CLKO (io), 15 P1.0/PWM0_CH2/IC2/SPI0_CLK (io), 16 P0.0/PWM0_CH3/IC3/SPI0_MOSI/T1 (io), 17 P0.1/PWM0_CH4/IC4/SPI0_MISO (io), 18 P0.2/ICE_CLK/UART1_RXD/[I2C0_SCL] (io), 19 P0.3/ADC_CH6/PWM0_CH5/IC5 (io), 20 P0.4/ADC_CH5/PWM0_CH3/IC3/STADC (io)

## MSP430G2333
designator U?
footprint TSSOP28N (TSSOP, 28-Leads, Body 9.70x4.40mm, Pitch 0.65mm, IPC Medium Density)
pins: 1 DVCC, 2 P1.0/TAOCLK/ACLK/A0, 3 P1.1/TA0.0/UCA0RXD/UCA0SOMI/A1, 4 P1.2/TA0.1/UCA0TXD/PUCA0SIMO/A2, 5 P1.3/ADC10CLK/VREF-/VEREF-/A3, 6 P1.4/SMCLK/UCB0STE/UCA0CLK/VREF+/VEREF+/A4/TCK, 7 P1.5/TA0.0/UCB0CLK/UCA0STE/A5/TMS, 8 P3.1/TA1.0, 9 P3.0/TA0.2, 10 P2.0/TA1.0, 11 P2.1/TA1.1, 12 P2.2/TA1.1, 13 P3.2/TA1.1, 14 P3.3/TA1.2, 15 P3.4/TA0.0, 16 P2.3/TA1.0, 17 P2.4/TA1.2, 18 P2.5/TA1.2, 19 P3.5/TA0.1, 20 P3.6/TA0.2, 21 P3.7/TA1CLK, 22 P1.6/TA0.1/UCB0SOMI/UCB0SCL/A6/TDI/TCLK, 23 P1.7/UCB0SIMO/UCB0SDA/A7/TDO/TDI, 24 ~{RST}/NMI/SBWTDIO, 25 TEST/SBWTCK, 26 XOUT/P2.7, 27 XIN/P2.6/TA0.1, 28 DVSS

## N76E003AT20
designator U?
N76E003AT20,TSSOP20
footprint TSSOP20_M (TSOP, 20-Leads, Body 6.5x4.4mm, Pitch 0.65mm, IPC Low Density)
pins: 1 P0.5/AIN4/T0/IC6/PWM2, 2 P0.6/AIN3/TXD, 3 P0.7/AIN2/RXD, 4 P2.0/~{RST}, 5 P3.0/AINT1/OSCIN/~{INT0}, 6 P1.7/AIN0/~{INT1}, 7 GND, 8 P1.6/OCDDA/ICPDA/TXD_1/[SDA], 9 VDD, 10 P1.5/~{SS}/IC7/PWM5, 11 P1.4/SDA//FB/PWM1, 12 P1.3/SCL/S[STADC], 13 P1.2/PWM0/IC0, 14 P1.1/PWM1/IC1/AIN7/CLO, 15 P1.0/PWM2/IC2/SPCLK, 16 P0.0/PWM3/IC3/MOSI/T1, 17 P0.1/PWM4/IC4/MISO, 18 P0.2/ICPCK/OCDCK/RXD_1/[SCL], 19 P0.3/PWM5/IC5/AIN6, 20 P0.4/AIN5.STADC/PWM3/IC3

## nRF24L01
designator U?
footprint RTK20_2P4X2P4
pins: 1 CE, 2 CSN, 3 SCK, 4 MOSI, 5 MISO, 6 IRQ, 7 VDD, 8 VSS, 9 XC2, 10 XC1, 11 VDD_PA, 12 ANT1, 13 ANT2, 14 VSS, 15 VDD, 16 IREF, 17 VSS, 18 VDD, 19 DVDD, 20 VSS, 21 VSS

## NTD3055L170
designator Q?
Power MOSFET 9.0 A, 60 V, Logic Level, N?Channel  DPAK/IPAK; PackageReference: SOT23; ComponentLink1Description: Manufacturer Link; ComponentLink1URL: http://www.aosmd.com/; ComponentLink2Description: Datasheet; ComponentLink2URL: http://www.aosmd.com/res/data_sheets/AO3402.pdf
footprint TO-252
pins: 1 G, 2 D, 3 S

## NUP2105L
designator U?
?   Semiconductor Components Industries, LLC, 2004  September, 2004 ? Rev. 1  1  Publication Order NumDual Line CAN  Bus Protector
footprint SOT23
pins: 1 A, 2 A, 3 K

## OPA333
designator U?
High-Voltage FET-Input Operational Amplifier; Note: Pin 8 is No internal Connection (NC) pin.; Published: 8-Jun-2000; LatestRevisionDate: 17-Jul-2002; LatestRevisionNote: Re-released for DXP Platform.; DatasheetVersion: 1996~1997; PackageVersion: revB; PackageReference: 001B; Publisher: Altium Limited; PackageDescription: Can; 8 Leads; Pin Circle Dia. 5.08 mm (TO-99); Lead Dia. 0.53 mm (max); ComponentLink1Description: Manufacturer Link; ComponentLink1URL: http://www.ti.com/; ComponentLink2Description: Datasheet; ComponentLink2URL: http://www-s.ti.com/sc/ds/opa445.pdf
footprint SOT23-5_L (SOT23, 5-Leads, Body 2.9x1.6mm, Pitch 0.95mm, Lead Span 2.8mm, IPC High Density)
pins: 1 OUT (out), 2 V- (power), 3 IN+ (in), 4 IN- (in), 5 V+ (power)

## PC817
designator U?  (value not drawn)
4-Pin Phototransistor Optocoupler,光耦; Published: 24-Mar-1999; LatestRevisionDate: 04-Mar-2005; LatestRevisionNote: Sch pins 3 & 4 Swapped.; DatasheetVersion: Nov-2003; PackageReference: SOP-4; Publisher: Altium Limited
footprint PC817
pins: 1 A "Anode", 2 K "Cathode", 3 E "Emitter", 4 C "Collector"

## PS2805-4
designator U?
HIGH  ISOLATION  VOLTAGE  AC  INPUT  RESPONSE  TYPE  SOP  PHOTOCOUPLER
footprint SO-16 (Small Outline; 16 Leads; Body Width 3.9 mm; Pitch 1.27 mm)
pins: 1, 2, 3, 4, 5, 6, 7, 8, 9, 10, 11, 12, 13, 14, 15, 16

## PT4115
designator U?
高调光比LED恒流驱动器 、30V/1.2A
footprint SOT-89-MT5_M (SOT89, 5-Leads, Body 4.5x2.4 mm, Pitch 1.5mm, Lead Span 4.2mm, IPC Low Density)
pins: 1 SW, 2 GND, 3 DIM, 4 CSN, 5 VIN

## RFX2401C
designator U?
footprint QFN50P300X300X60_HS-17N (QFN, 16-Leads, Body 3.00x3.00mm, Pitch 0.50mm, Thermal Pad 1.73x1.73mm, IPC Medium Density)
pins: 1 NC, 2 GND, 3 GND, 4 TXRX, 5 TXRX, 6 RXEN, 7 NC, 8 GND, 9 GND, 10 ANT, 11 GND, 12 NC, 13 DNC, 14 VDD, 15 NC, 16 VDD, 17 GND

## RSM465PCT
designator U?
隔离RS-485收发器
footprint RSM485PCT
pins: 1 VCC, 2 GND, 3 TXD, 4 RXD, 5 CON, 7 VO, 8 B, 9 A, 10 RGND

## RT6150AGQW
designator U?
升降压型 同步整流，通道数1，输入电压：1.8V~5.5V 输出电压：1.8V~5.5V 输出电流(最大值)：800mA 开关频率：1MHz Buck-BoostDC/DC转换器
footprint WDFN-10_L3.0-W3.0-P0.50-BL-EP
pins: 1 VOUT, 2 LX2, 3 GND, 4 LX1, 5 VIN, 6 EN, 7 PS, 8 VINA (power), 9 GND (power), 10 FB (power), 11 GND (power)

## RXB12G
designator M?
433无线模块
footprint RXB12G
pins: 1 GND, 2 VCC, 3 A, 4 B, 5 C, 6 D, 7 VD

## S8050
designator Q?
NPN,三极管
footprint SOT23
pins: 1 B, 2 E, 3 C

## S8550
designator Q?
PNP Bipolar Transistor; Published: 8-Jun-2000; LatestRevisionDate: 29-May-2009; LatestRevisionNote: IPC-7351 Footprint Added.; PackageVersion: Aug-1999; PackageReference: SOT-23B; Publisher: Altium Limited; PackageDescription: 3-Pin SOT-23 Package 0.95 mm Pitch, 2.4 mm Lead Span
simulation model PNP
signal-integrity model PNP
footprint SOT23
pins: 1 B, 2 E, 3 C

## S+4OX
designator U?
Oxygen Sensor (O2)
footprint S+4OX
pins: 1, 2
text: 底视

## S-818A50AMC-BHET2G
designator U?
DC-DC,buck,10V/300mA
footprint SOT23-5_L (SOT23, 5-Leads, Body 2.9x1.6mm, Pitch 0.95mm, Lead Span 2.8mm, IPC High Density)
pins: 1 VIN, 2 GND, 3 ON/OFF, 4 NC, 5 Vout

## S-8252
designator U?
2节电池串联用电池保护IC
footprint SOT23-6L
pins: 1 DO, 2 CO, 3 VM, 4 VC, 5 VDD, 6 VSS

## S-8254
designator U?
BATTERY PROTECTION IC  FOR 3-SERIAL- OR 4-SERIAL-CELL PACK
footprint TSSOP16_M (TSOP, 16-Leads, Body 5x4.4mm, Pitch 0.65mm, IPC Low Density)
pins: 1 COP, 2 VMP, 3 DOP, 4 VINI, 5 CDT, 6 CCT, 7 VSS, 8 NC, 9 NC, 10 SEL, 11 CTL, 12 VC4, 13 VC3, 14 VC2, 15 VC1, 16 VDD

## SDB628
designator U?
footprint SOT23-6
pins: 1 SW, 2 GND, 3 FB, 4 EN, 5 IN, 6 NC

## SE9018
designator U?
footprint SOIC8_N
pins: 1, 2 GND, 2 PROG, 4 VCC, 5 BAT, 6 ~{STDBY}, 7 ~{CHRG}, 8 CE

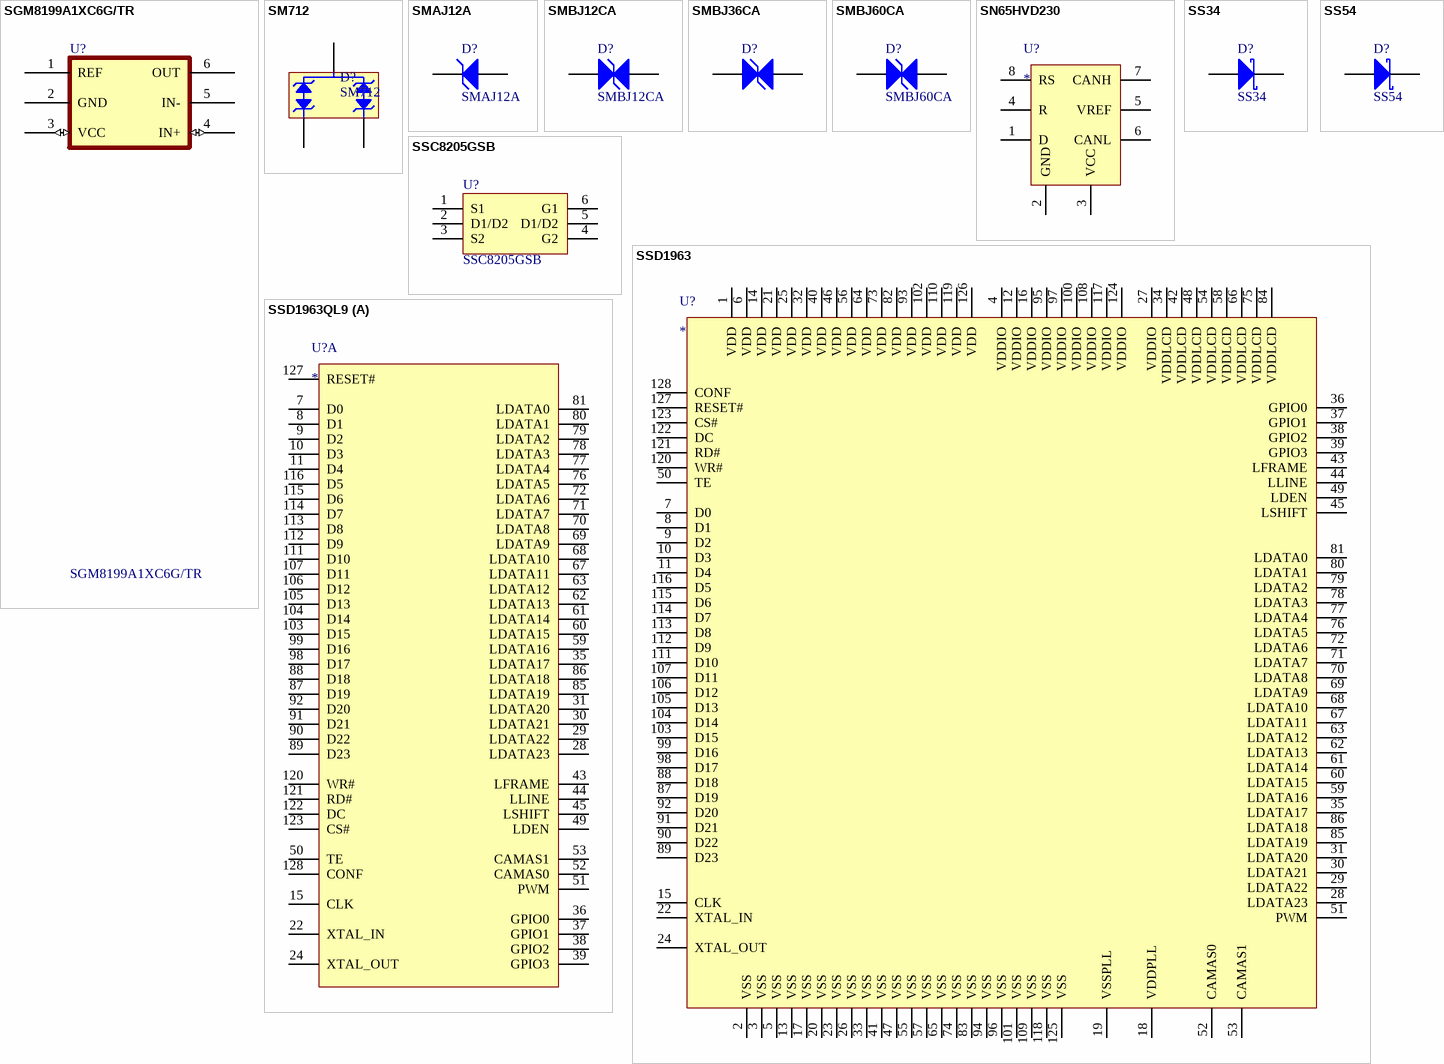
[diagram p4: symbols SGM8199A1XC6G/TR to SSD1963QL9]

## SGM8199A1XC6G/TR
designator U?
电流感应放大器; Published: 30-May-2008; DatasheetVersion: rev6, Mar-2008; PackageVersion: Mar-2008; PackageReference: LQFP48; Publisher: Altium Limited; PackageDescription: 48-Pin Low-Profile Quad Flat Pack, 7 x 7 mm Body, 0.5 mm Pitch (LQFP48); ComponentLink1Description: Manufacturer Link; ComponentLink1URL: www.st.com/stm32; ComponentLink2Description: Datasheet; ComponentLink2URL: http://www.st.com/stonline/products/literature/ds/13587.pdf
footprint SOT23-6L
pins: 1 REF, 2 GND (power), 3 VCC (io), 4 IN+ (io), 5 IN- (power), 6 OUT (power)

## SM712
designator D?
Asymmerical TVS Diode for  Extended Common-Mode RS-485; Note: Pin 4 not drawn and electrically connected to Pin 2.; Published: 8-Jun-2000; LatestRevisionDate: 17-Jul-2002; LatestRevisionNote: Re-released for DXP Platform.; DatasheetVersion: PD-9.390D; PackageVersion: Feb-1997; PackageReference: TO-220AB; Publisher: Altium Limited; PackageDescription: TO, Thru-Hole, Vertical, Heatsink Mounted; 3 In-Line Leads; Pitch 2.54 mm; ComponentLink1Description: Manufacturer Link; ComponentLink1URL: http://www.irf.com/
footprint SOT23
pins: 1 G, 2 S, 3 D

## SMAJ12A
designator D?
TVS, 12V,400W
footprint DO-214AC
pins: 1 A, 2 K

## SMBJ12CA
designator D?
SS34,SMA，肖特基二极管
footprint SMB
pins: 1 A, 2 K

## SMBJ36CA
designator D?
TVS,双向,36V,400W
footprint SMB
pins: 1 A, 2 K

## SMBJ60CA
designator D?
TVS
footprint SMB
pins: 1 A, 2 K

## SN65HVD230
designator U?
3.3-V CAN TRANSCEIVERS
footprint SOIC8_N
pins: 1 D, 2 GND, 3 VCC, 4 R, 5 VREF, 6 CANL, 7 CANH, 8 RS

## SS34
designator D?
SS34,SMA，肖特基二极管
footprint SMA
pins: 1 A, 2 K

## SS54
designator D?
肖特基整流二极管 正向电流：5A 反向耐压：40V
footprint SMC
pins: 1 A, 2 K

## SSC8205GSB
designator U?
N-Ch Enhancement Mode Power MOSFET
footprint SOT23-6L
pins: 1 S1, 2 D1/D2, 3 S2, 4 G2, 5 D1/D2, 6 G1

## SSD1963
designator U?
显示控制器IC
footprint LQFP128_N (Thin QFP, 128-Leads, Body 14x14mm, Pitch 0.4mm, IPC Medium Density)
pins: 1 VDD, 2 VSS, 3 VSS, 4 VDDIO, 5 VSS, 6 VDD, 7 D0, 8 D1, 9 D2, 10 D3, 11 D4, 12 VDDIO, 13 VSS, 14 VDD, 15 CLK, 16 VDDIO, 17 VSS, 18 VDDPLL, 19 VSSPLL, 20 VSS, 21 VDD, 22 XTAL_IN, 23 VSS, 24 XTAL_OUT, 25 VDD, 26 VSS, 27 VDDIO, 28 LDATA23, 29 LDATA22, 30 LDATA21, 31 LDATA20, 32 VDD, 33 VSS, 34 VDDLCD, 35 LDATA17, 36 GPIO0, 37 GPIO1, 38 GPIO2, 39 GPIO3, 40 VDD, 41 VSS, 42 VDDLCD, 43 LFRAME, 44 LLINE, 45 LSHIFT, 46 VDD, 47 VSS, 48 VDDLCD, 49 LDEN, 50 TE, 51 PWM, 52 CAMAS0, 53 CAMAS1, 54 VDDLCD, 55 VSS, 56 VDD, 57 VSS, 58 VDDLCD, 59 LDATA16, 60 LDATA15, 61 LDATA14, 62 LDATA13, 63 LDATA12, 64 VDD, 65 VSS, 66 VDDLCD, 67 LDATA11, 68 LDATA10, 69 LDATA9, 70 LDATA8, 71 LDATA7, 72 LDATA6, 73 VDD, 74 VSS, 75 VDDLCD, 76 LDATA5, 77 LDATA4, 78 LDATA3, 79 LDATA2, 80 LDATA1, 81 LDATA0, 82 VDD, 83 VSS, 84 VDDLCD, 85 LDATA19, 86 LDATA18, 87 D19, 88 D18, 89 D23, 90 D22, 91 D21, 92 D20, 93 VDD, 94 VSS, 95 VDDIO, 96 VSS, 97 VDDIO, 98 D17, 99 D16, 100 VDDIO, 101 VSS, 102 VDD, 103 D15, 104 D14, 105 D13, 106 D12, 107 D11, 108 VDDIO, 109 VSS, 110 VDD, 111 D10, 112 D9, 113 D8, 114 D7, 115 D6, 116 D5, 117 VDDIO, 118 VSS, 119 VDD, 120 WR#, 121 RD#, 122 DC, 123 CS#, 124 VDDIO, 125 VSS, 126 VDD, 127 RESET#, 128 CONF

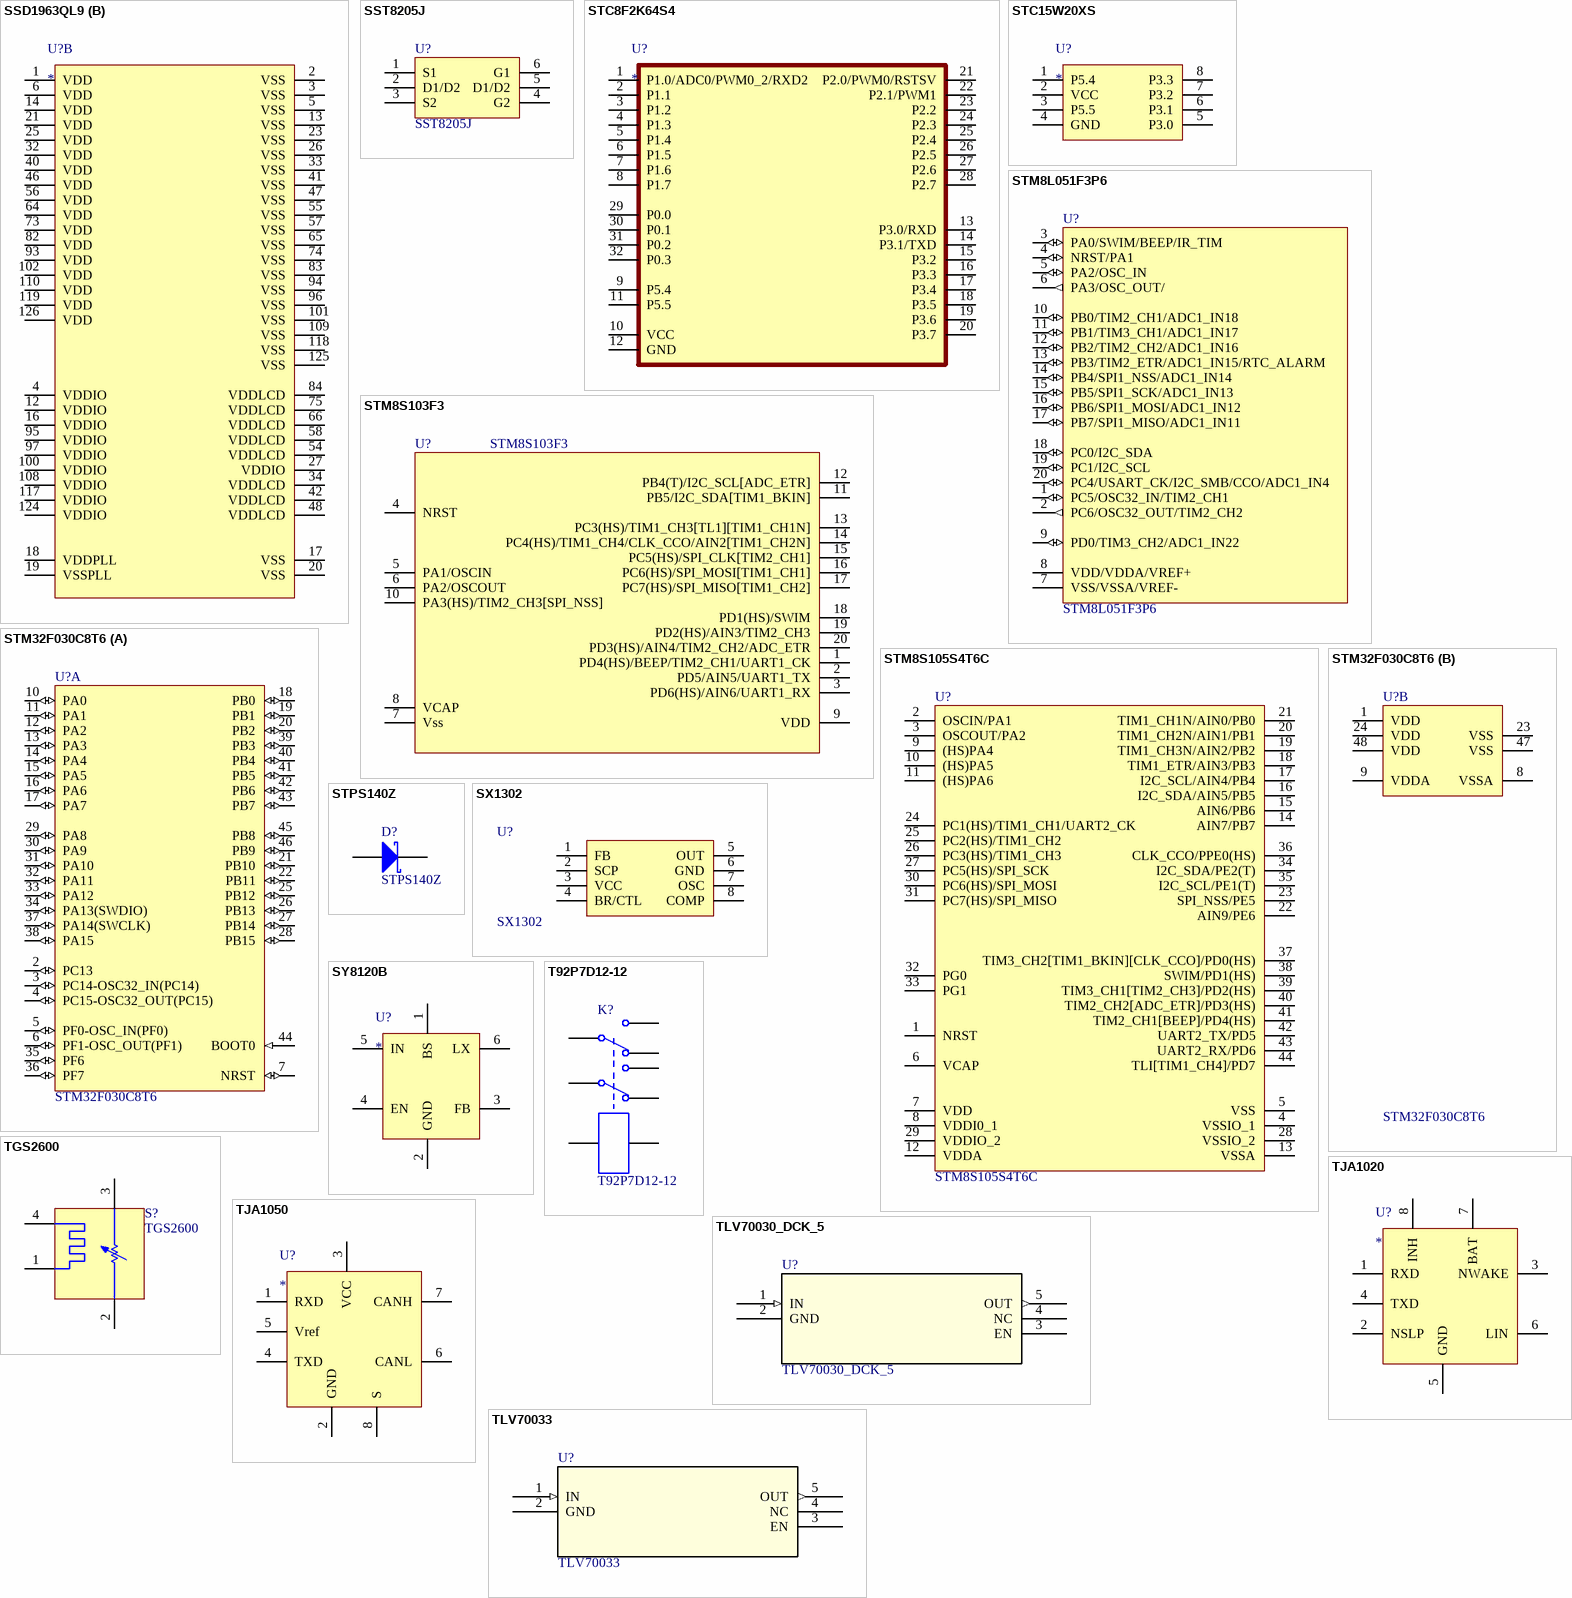
[diagram p5: symbols SSD1963QL9 to TLV70033]

## SSD1963QL9
designator U?
显示控制器IC
footprint LQFP128_N (Thin QFP, 128-Leads, Body 14x14mm, Pitch 0.4mm, IPC Medium Density)
part A pins: 7 D0, 8 D1, 9 D2, 10 D3, 11 D4, 15 CLK, 22 XTAL_IN, 24 XTAL_OUT, 28 LDATA23, 29 LDATA22, 30 LDATA21, 31 LDATA20, 35 LDATA17, 36 GPIO0, 37 GPIO1, 38 GPIO2, 39 GPIO3, 43 LFRAME, 44 LLINE, 45 LSHIFT, 49 LDEN, 50 TE, 51 PWM, 52 CAMAS0, 53 CAMAS1, 59 LDATA16, 60 LDATA15, 61 LDATA14, 62 LDATA13, 63 LDATA12, 67 LDATA11, 68 LDATA10, 69 LDATA9, 70 LDATA8, 71 LDATA7, 72 LDATA6, 76 LDATA5, 77 LDATA4, 78 LDATA3, 79 LDATA2, 80 LDATA1, 81 LDATA0, 85 LDATA19, 86 LDATA18, 87 D19, 88 D18, 89 D23, 90 D22, 91 D21, 92 D20, 98 D17, 99 D16, 103 D15, 104 D14, 105 D13, 106 D12, 107 D11, 111 D10, 112 D9, 113 D8, 114 D7, 115 D6, 116 D5, 120 WR#, 121 RD#, 122 DC, 123 CS#, 127 RESET#, 128 CONF
part B pins: 1 VDD, 2 VSS, 3 VSS, 4 VDDIO, 5 VSS, 6 VDD, 12 VDDIO, 13 VSS, 14 VDD, 16 VDDIO, 17 VSS, 18 VDDPLL, 19 VSSPLL, 20 VSS, 21 VDD, 23 VSS, 25 VDD, 26 VSS, 27 VDDIO, 32 VDD, 33 VSS, 34 VDDLCD, 40 VDD, 41 VSS, 42 VDDLCD, 46 VDD, 47 VSS, 48 VDDLCD, 54 VDDLCD, 55 VSS, 56 VDD, 57 VSS, 58 VDDLCD, 64 VDD, 65 VSS, 66 VDDLCD, 73 VDD, 74 VSS, 75 VDDLCD, 82 VDD, 83 VSS, 84 VDDLCD, 93 VDD, 94 VSS, 95 VDDIO, 96 VSS, 97 VDDIO, 100 VDDIO, 101 VSS, 102 VDD, 108 VDDIO, 109 VSS, 110 VDD, 117 VDDIO, 118 VSS, 119 VDD, 124 VDDIO, 125 VSS, 126 VDD

## SST8205J
designator U?
N-Ch Enhancement Mode Power MOSFET
footprint SOT23-6
pins: 1 S1, 2 D1/D2, 3 S2, 4 G2, 5 D1/D2, 6 G1

## STC8F2K64S4
designator U?
pins: 1 P1.0/ADC0/PWM0_2/RXD2, 2 P1.1, 3 P1.2, 4 P1.3, 5 P1.4 (power), 6 P1.5, 7 P1.6, 8 P1.7, 9 P5.4, 10 VCC, 11 P5.5, 12 GND, 13 P3.0/RXD, 14 P3.1/TXD, 15 P3.2, 16 P3.3, 17 P3.4, 18 P3.5, 19 P3.6, 20 P3.7, 21 P2.0/PWM0/RSTSV, 22 P2.1/PWM1, 23 P2.2, 24 P2.3, 25 P2.4, 26 P2.5, 27 P2.6, 28 P2.7, 29 P0.0, 30 P0.1, 31 P0.2, 32 P0.3

## STC15W20XS
designator U?
footprint SOIC8_N
pins: 1 P5.4, 2 VCC, 3 P5.5, 4 GND, 5 P3.0, 6 P3.1, 7 P3.2, 8 P3.3

## STM8L051F3P6
designator U?
STM8L051F3P6, TSSOP20; PackageVersion: 2010; PackageReference: TSSOP20; PackageDescription: 20-Pin Thin Shrink Small Package Outline 0.65 mm Pitch; ComponentLink1Description: Manufacturer URL; ComponentLink1URL: http://www.st.com/; ComponentLink2Description: STM8L101 Datasheet; ComponentLink2URL: http://www.st.com/internet/com/TECHNICAL_RESOURCES/TECHNICAL_LITERATURE/DATASHEET/CD00220591.pdf; ComponentLink3Description: STM8L Family Web Page; ComponentLink3URL: http://www.st.com/internet/mcu/subclass/1381.jsp
footprint TSSOP20_M (TSOP, 20-Leads, Body 6.5x4.4mm, Pitch 0.65mm, IPC Low Density)
pins: 1 PC5/OSC32_IN/TIM2_CH1 (io), 2 PC6/OSC32_OUT/TIM2_CH2 (out), 3 PA0/SWIM/BEEP/IR_TIM (io), 4 NRST/PA1 (io), 5 PA2/OSC_IN (io), 6 PA3/OSC_OUT/ (out), 7 VSS/VSSA/VREF- (power), 8 VDD/VDDA/VREF+ (power), 9 PD0/TIM3_CH2/ADC1_IN22 (io), 10 PB0/TIM2_CH1/ADC1_IN18 (io), 11 PB1/TIM3_CH1/ADC1_IN17 (io), 12 PB2/TIM2_CH2/ADC1_IN16 (io), 13 PB3/TIM2_ETR/ADC1_IN15/RTC_ALARM (io), 14 PB4/SPI1_NSS/ADC1_IN14 (io), 15 PB5/SPI1_SCK/ADC1_IN13 (io), 16 PB6/SPI1_MOSI/ADC1_IN12 (io), 17 PB7/SPI1_MISO/ADC1_IN11 (io), 18 PC0/I2C_SDA (io), 19 PC1/I2C_SCL (io), 20 PC4/USART_CK/I2C_SMB/CCO/ADC1_IN4 (io)

## STM8S103F3
designator U?
STM8S103F3,TSSOP20
footprint TSSOP20_M (TSOP, 20-Leads, Body 6.5x4.4mm, Pitch 0.65mm, IPC Low Density)
pins: 1 PD4(HS)/BEEP/TIM2_CH1/UART1_CK, 2 PD5/AIN5/UART1_TX, 3 PD6(HS)/AIN6/UART1_RX, 4 NRST, 5 PA1/OSCIN, 6 PA2/OSCOUT, 7 Vss, 8 VCAP, 9 VDD, 10 PA3(HS)/TIM2_CH3[SPI_NSS], 11 PB5/I2C_SDA[TIM1_BKIN], 12 PB4(T)/I2C_SCL[ADC_ETR], 13 PC3(HS)/TIM1_CH3[TL1][TIM1_CH1N], 14 PC4(HS)/TIM1_CH4/CLK_CCO/AIN2[TIM1_CH2N], 15 PC5(HS)/SPI_CLK[TIM2_CH1], 16 PC6(HS)/SPI_MOSI[TIM1_CH1], 17 PC7(HS)/SPI_MISO[TIM1_CH2], 18 PD1(HS)/SWIM, 19 PD2(HS)/AIN3/TIM2_CH3, 20 PD3(HS)/AIN4/TIM2_CH2/ADC_ETR

## STM8S105S4T6C
designator U?
MCU
footprint LQFP44
pins: 1 NRST, 2 OSCIN/PA1, 3 OSCOUT/PA2, 4 VSSIO_1, 5 VSS, 6 VCAP, 7 VDD, 8 VDDI0_1, 9 (HS)PA4, 10 (HS)PA5, 11 (HS)PA6, 12 VDDA, 13 VSSA, 14 AIN7/PB7, 15 AIN6/PB6, 16 I2C_SDA/AIN5/PB5, 17 I2C_SCL/AIN4/PB4, 18 TIM1_ETR/AIN3/PB3, 19 TIM1_CH3N/AIN2/PB2, 20 TIM1_CH2N/AIN1/PB1, 21 TIM1_CH1N/AIN0/PB0, 22 AIN9/PE6, 23 SPI_NSS/PE5, 24 PC1(HS)/TIM1_CH1/UART2_CK, 25 PC2(HS)/TIM1_CH2, 26 PC3(HS)/TIM1_CH3, 27 PC5(HS)/SPI_SCK, 28 VSSIO_2, 29 VDDIO_2, 30 PC6(HS)/SPI_MOSI, 31 PC7(HS)/SPI_MISO, 32 PG0, 33 PG1, 34 I2C_SDA/PE2(T), 35 I2C_SCL/PE1(T), 36 CLK_CCO/PPE0(HS), 37 TIM3_CH2[TIM1_BKIN][CLK_CCO]/PD0(HS), 38 SWIM/PD1(HS), 39 TIM3_CH1[TIM2_CH3]/PD2(HS), 40 TIM2_CH2[ADC_ETR]/PD3(HS), 41 TIM2_CH1[BEEP]/PD4(HS), 42 UART2_TX/PD5, 43 UART2_RX/PD6, 44 TLI[TIM1_CH4]/PD7

## STM32F030C8T6
designator U?
ARM Cortex-M0 32-bit MCU, 64 KB Flash, 8 KB Internal RAM, 39 I/Os, 48-pin LQFP, -40 to 85 degC, Tray; FLASH Size (Prog) (kB): 64; I/Os (High Current): 39; Internal RAM Size (kB): 8; Operating Frequency(F) (Processor speed) (MHz): 48; Supply Voltage(Vcc) min (V): 2.4; DatasheetVersion: Rev. 1; PackageVersion: Rev. 6, 06/2013; PackageReference: LQFP48; PackageDescription: 48-Pin Low Profile Quad Flat Package, 7 x 7 mm Body, 0.5 mm Pitch; Supplier 1: Digi-Key; Supplier Part Number 1: 497-14043-ND; Supplier 2: Newark; Supplier Part Number 2: 06X3647; Supplier 3: Mouser; Supplier Part Number 3: 511-STM32F030C8T6; Core: ARM Cortex-M0; Packing: Tray; Mounting Technology: Surface Mount; PartNumber: STM32F030C8T6; ComponentLink1Description: Manufacturer URL; ComponentLink1URL: http://www.st.com/web/en/home.html; ComponentLink2Description: Datasheet; ComponentLink2URL: http://www.st.com/st-web-ui/static/active/en/resource/technical/document/datasheet/DM00088500.pdf; ComponentLink3Description: Package Specification; ComponentLink3URL: http://www.st.com/st-web-ui/static/active/en/resource/technical/document/datasheet/DM00058181.pdf
footprint LQFP48_7X7X05P (Thin QFP, 48-Leads, Body 7x7mm, Pitch 0.5mm, IPC Medium Density)
part A pins: 2 PC13 (io) "PC13/RTC_TAMP1,RTC_TS,RTC_OUT,WKUP2", 3 PC14-OSC32_IN(PC14) (io) "PC14-OSC32_IN(PC14)/OSC32_IN", 4 PC15-OSC32_OUT(PC15) (io) "PC15-OSC32_OUT(PC15)/OSC32_OUT", 5 PF0-OSC_IN(PF0) (io) "PF0-OSC_IN(PF0)/OSC_IN", 6 PF1-OSC_OUT(PF1) (io) "PF1-OSC_OUT(PF1)/OSC_OUT", 7 NRST (io) "Device reset input / internal reset output (active low)", 10 PA0 (io) "PA0/USART2_CTS/ADC_IN0,RTC_TAMP2,WKUP1", 11 PA1 (io) "PA1/USART2_RTS,EVENTOUT/ADC_IN1", 12 PA2 (io) "PA2/USART2_TX,TIM15_CH1/ADC_IN2", 13 PA3 (io) "PA3/USART2_RX,TIM15_CH2/ADC_IN3", 14 PA4 (io) "PA4/SPI1_NSS/USART2_CK,TIM14_CH1/ADC_IN4", 15 PA5 (io) "PA5/SPI1_SCK/ADC_IN5", 16 PA6 (io) "PA6/SPI1_MISO,TIM3_CH1,TIM1_BKIN,TIM16_CH1,EVENTOUT/ADC_IN6", 17 PA7 (io) "PA7/SPI1_MOSI,TIM3_CH2,TIM14_CH1,TIM1_CH1N,TIM17_CH1,EVENTOUT/ADC_IN7", 18 PB0 (io) "PB0/TIM3_CH3,TIM1_CH2N,EVENTOUT/ADC_IN8", 19 PB1 (io) "PB1/TIM3_CH4,TIM14_CH1,TIM1_CH3N/ADC_IN9", 20 PB2 (io), 21 PB10 (io) "PB10/I2C2_SCL", 22 PB11 (io) "PB11/I2C2_SDA,EVENTOUT", 25 PB12 (io) "PB12/SPI2_NSS,TIM1_BKIN,EVENTOUT", 26 PB13 (io) "PB13/SPI2_SCK,TIM1_CH1N", 27 PB14 (io) "PB14/SPI2_MISO,TIM1_CH2N,TIM15_CH1", 28 PB15 (io) "PB15/SPI2_MOSI,TIM1_CH3N,TIM15_CH1N,TIM15_CH2/RTC_REFIN", 29 PA8 (io) "PA8/USART1_CK,TIM1_CH1,EVENTOUT,MCO", 30 PA9 (io) "PA9/USART1_TX,TIM1_CH2,TIM15_BKIN", 31 PA10 (io) "PA10/USART1_RX,TIM1_CH3,TIM17_BKIN", 32 PA11 (io) "PA11/USART1_CTS,TIM1_CH4,EVENTOUT", 33 PA12 (io) "PA12/USART1_RTS,TIM1_ETR,EVENTOUT", 34 PA13(SWDIO) (io) "PA13(SWDIO)/IR_OUT,SWDIO", 35 PF6 (io) "PF6/I2C2_SCL", 36 PF7 (io) "PF7/I2C2_SDA", 37 PA14(SWCLK) (io) "PA14(SWCLK)/USART2_TX,SWCLK", 38 PA15 (io) "PA15/SPI1_NSS,USART2_RX,EVENTOUT", 39 PB3 (io) "PB3/SPI1_SCK,EVENTOUT", 40 PB4 (io) "PB4/SPI1_MISO,TIM3_CH1,EVENTOUT", 41 PB5 (io) "PB5/SPI1_MOSI,I2C1_SMBA,TIM16_BKIN,TIM3_CH2", 42 PB6 (io) "PB6/I2C1_SCL,USART1_TX,TIM16_CH1N", 43 PB7 (io) "PB7/I2C1_SDA,USART1_RX,TIM17_CH1N", 44 BOOT0 (in) "Boot memory selection", 45 PB8 (io) "PB8/I2C1_SCL,TIM16_CH1", 46 PB9 (io) "PB9/I2C1_SDA,IR_OUT,TIM17_CH1,EVENTOUT"
part B pins: 1 VDD (power) "Digital power supply", 8 VSSA (power) "Analog ground", 9 VDDA (power) "Analog power supply", 23 VSS (power) "Ground", 24 VDD (power) "Digital power supply", 47 VSS (power) "Ground", 48 VDD (power) "Digital power supply"

## STPS140Z
designator D?
肖特基二极管 40V,1A,VF=40uA@40V, Vf =550mV@1A
footprint SOD-123
pins: 1 A, 2 K

## SX1302
designator U?
加密芯片; ComponentLink1URL: http://www.chip-wise.com
footprint SOIC8_N
pins: 1 FB, 2 SCP, 3 VCC, 4 BR/CTL, 5 OUT, 6 GND, 7 OSC, 8 COMP

## SY8120B
designator U?
DC-DC,buck,18V/2A
footprint SOT23-6L
pins: 1 BS, 2 GND, 3 FB, 4 EN, 5 IN, 6 LX

## T92P7D12-12
designator K?
Dual-Pole Dual-Throw Relay 继电器; Published: 24-Mar-1999; LatestRevisionDate: 17-Jul-2002; LatestRevisionNote: Re-released for DXP Platform.; PackageReference: DIP-P8; Publisher: Altium Limited; PackageDescription: Relay; 8 Leads
footprint T92P7D12-12
pins: 0 8, 1 7, 2 5, 3 6, 4, 6 2, 7 3, 8 1

## TGS2600
designator S?
TGS2600, TVOC传感器
footprint TO-5-4-060
pins: 1, 2, 3, 4

## TJA1020
designator U?
TJA1020，LIN transceiver
footprint SOIC8_N
pins: 1 RXD, 2 NSLP, 3 NWAKE, 4 TXD, 5 GND, 6 LIN, 7 BAT, 8 INH

## TJA1050
designator U?
High speed CAN transceiver
footprint SOIC8_N
pins: 1 RXD, 2 GND, 3 VCC, 4 TXD, 5 Vref, 6 CANL, 7 CANH, 8 S

## TLV70030_DCK_5
designator U?
Imported; Manufacturer_Part_Number: tlv70012_dck_5; GENERIC_PART_NUMBER: TLV70012; Vendor: Texas Instruments; PACKAGE_DESIGNATOR: DCK; PIN_COUNT: 5; FAMILY_NAME: SINGLE CHANNEL LDO; INDUSTRY_STD_PKG_TYPE: SC70; Datasheet URL: http://www.ti.com/lit/gpn/TLV70012; Manufacturer: Texas Instruments; RefDes: RefDes; Type: DEV; Value: Value
footprint SOT23-5_L (SOT23, 5-Leads, Body 2.9x1.6mm, Pitch 0.95mm, Lead Span 2.8mm, IPC High Density)
pins: 1 IN (in), 2 GND (power), 3 EN, 4 NC, 5 OUT (out)

## TLV70033
designator U?
Imported; Manufacturer_Part_Number: tlv70012_dck_5; GENERIC_PART_NUMBER: TLV70012; Vendor: Texas Instruments; PACKAGE_DESIGNATOR: DCK; PIN_COUNT: 5; FAMILY_NAME: SINGLE CHANNEL LDO; INDUSTRY_STD_PKG_TYPE: SC70; Datasheet URL: http://www.ti.com/lit/gpn/TLV70012; Manufacturer: Texas Instruments; RefDes: RefDes; Type: DEV; Value: Value
footprint SOT23-5_L (SOT23, 5-Leads, Body 2.9x1.6mm, Pitch 0.95mm, Lead Span 2.8mm, IPC High Density)
pins: 1 IN (in), 2 GND (power), 3 EN, 4 NC, 5 OUT (out)

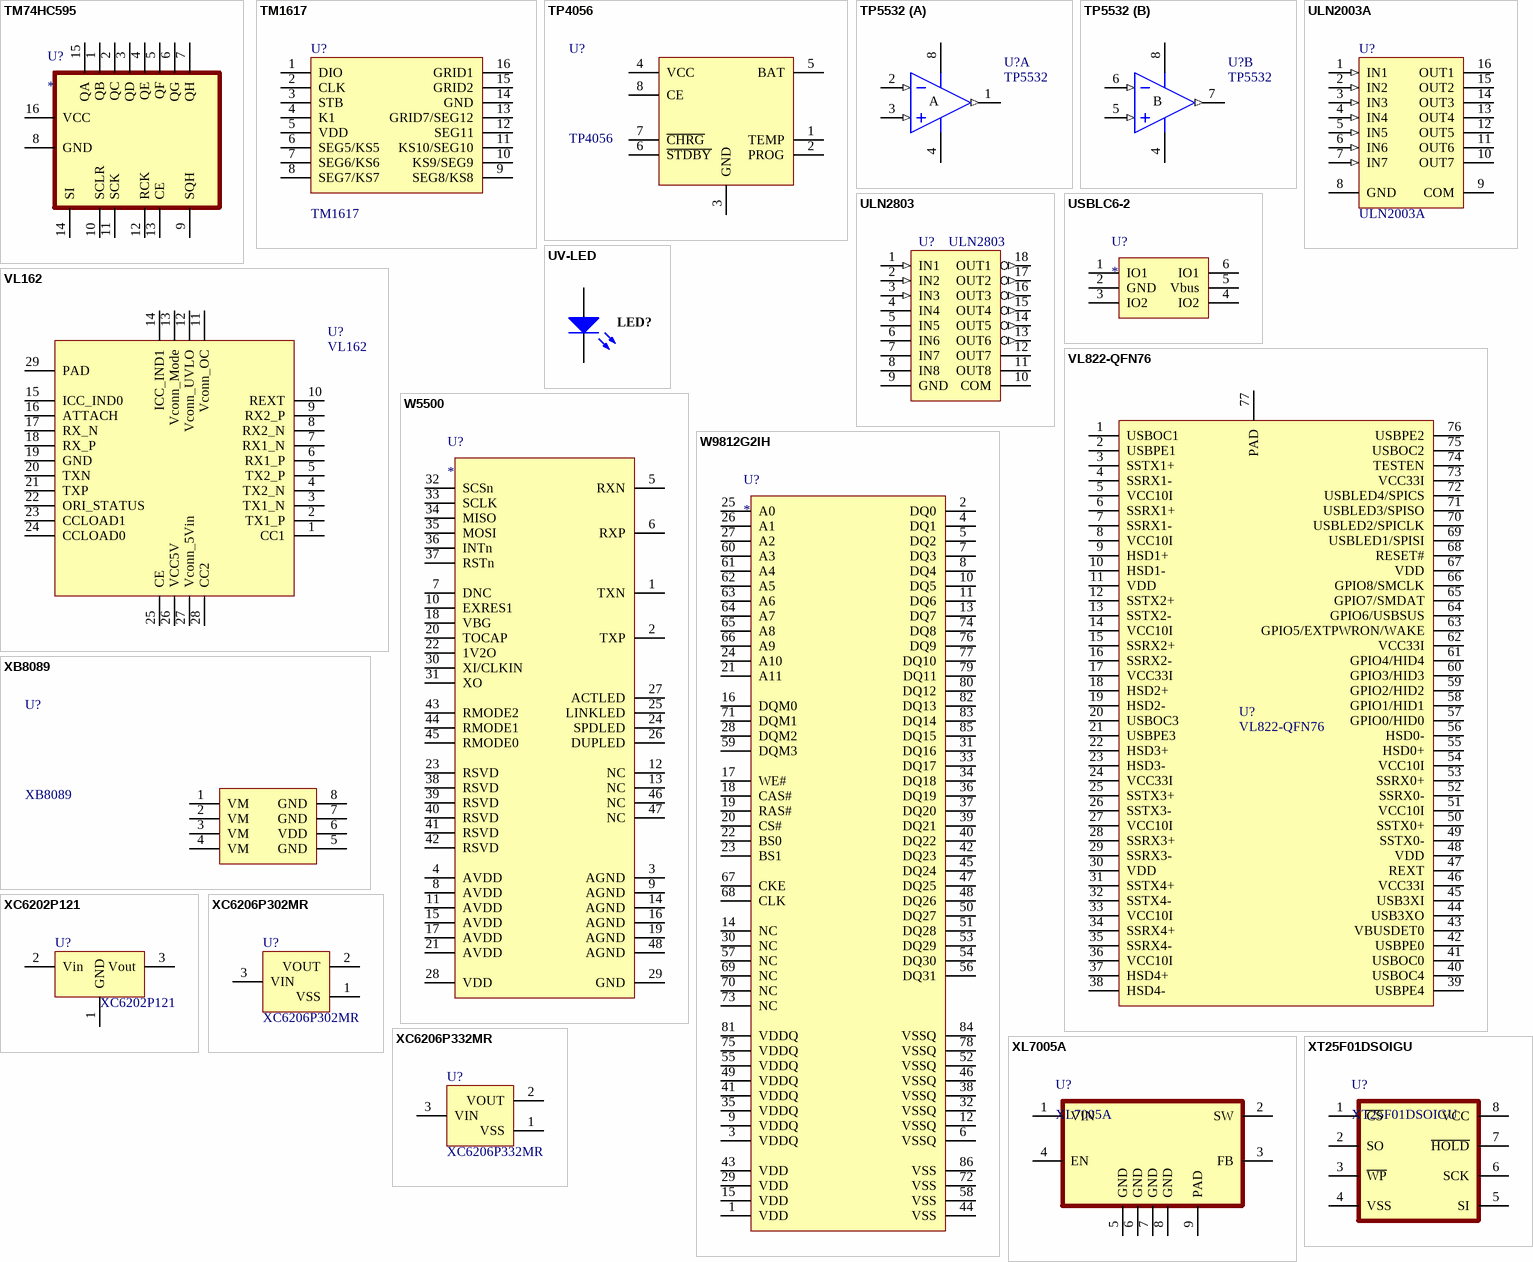
[diagram p6: symbols TM74HC595 to XT25F01DSOIGU]

## TM74HC595
designator U?
footprint SO-16 (Small Outline; 16 Leads; Body Width 3.9 mm; Pitch 1.27 mm)
pins: 1 QB, 2 QC, 3 QD, 4 QE, 5 QF, 6 QG, 7 QH, 8 GND (power), 9 SQH (power), 10 SCLR (power), 11 SCK (power), 12 RCK (power), 13 CE (power), 14 SI (power), 15 QA (power), 16 VCC (power)

## TM1617
designator U?
LED驱动控制专用电路; Published: 8-Jun-2000; LatestRevisionDate: 06-Jun-2005; LatestRevisionNote: Stylized 3D Model Added.; DatasheetVersion: Sep-1998; PackageVersion: Apr-1996; PackageReference: DIP16; Publisher: Altium Limited; PackageDescription: DIP; 16 Leads; Row Spacing 7.62 mm; Pitch 2.54 mm; ComponentLink1Description: Manufacturer Link; ComponentLink1URL: http://www.st.com/; ComponentLink2Description: Datasheet; ComponentLink2URL: http://www.st.com/stonline/products/literature/ds/5279/uln2001.pdf
3D model DIP16 (DIP; 16 Leads; Row Spacing 7.62 mm; Pitch 2.54 mm)
footprint SO16
pins: 1 DIO, 2 CLK, 3 STB, 4 K1, 5 VDD, 6 SEG5/KS5, 7 SEG6/KS6, 8 SEG7/KS7 (power), 9 SEG8/KS8, 10 KS9/SEG9 (oc), 11 KS10/SEG10, 12 SEG11, 13 GRID7/SEG12 (oc), 14 GND (oc), 15 GRID2 (oc), 16 GRID1 (oc)

## TP4056
designator U?
1A  线性锂离子电池充电器; ComponentLink1URL: http://www.chip-wise.com
footprint SOP8-PP
pins: 1 TEMP, 2 PROG, 3 GND, 4 VCC, 5 BAT, 6 ~{STDBY}, 7 ~{CHRG}, 8 CE

## TP5532
designator U?
1.8V, 34μA, RRIO, Zero Drift Op-amps; Published: 24-Aug-2001; LatestRevisionDate: 13-Apr-2006; LatestRevisionNote: IPC-7351 Footprint Added.; DatasheetVersion: Jun-1998; PackageVersion: Dec-2002; PackageReference: SO8; Publisher: Altium Limited; PackageDescription: 8-Pin Small Outline Integrated Circuit 1.27 mm Pitch; Code_JEDEC: MS-012-AA; Code_IPC: SOIC127P600-8; ComponentLink1Description: Manufacturer Link; ComponentLink1URL: http://www.3peakic.com.cn/; ComponentLink2Description: Datasheet; ComponentLink2URL: http://www.3peakic.com.cn/resources/download/TP5531-5532-5534_REV1.0.pdf
3D model SO8 (8-Pin Small Outline Integrated Circuit 1.27 mm Pitch)
footprint SOIC8_N
pins on every part: 4 V- (power), 8 V+ (power)
part A pins: 1 OUT (out), 2 IN- (in), 3 IN+ (in)
part B pins: 5 IN+ (in), 6 IN- (in), 7 OUT (out)
part A text: A
part B text: B

## ULN2003A
designator U?
Seven Darlington Array; Published: 8-Jun-2000; LatestRevisionDate: 06-Jun-2005; LatestRevisionNote: Stylized 3D Model Added.; DatasheetVersion: Sep-1998; PackageVersion: Apr-1996; PackageReference: DIP16; Publisher: Altium Limited; PackageDescription: DIP; 16 Leads; Row Spacing 7.62 mm; Pitch 2.54 mm; ComponentLink1Description: Manufacturer Link; ComponentLink1URL: http://www.st.com/; ComponentLink2Description: Datasheet; ComponentLink2URL: http://www.st.com/stonline/products/literature/ds/5279/uln2001.pdf
3D model DIP16 (DIP; 16 Leads; Row Spacing 7.62 mm; Pitch 2.54 mm)
footprint SO16
pins: 1 IN1 (in), 2 IN2 (in), 3 IN3 (in), 4 IN4 (in), 5 IN5 (in), 6 IN6 (in), 7 IN7 (in), 8 GND (power), 9 COM, 10 OUT7 (oc), 11 OUT6 (oc), 12 OUT5 (oc), 13 OUT4 (oc), 14 OUT3 (oc), 15 OUT2 (oc), 16 OUT1 (oc)

## ULN2803
designator U?
footprint SO-18
pins: 1 IN1 (in), 2 IN2 (in), 3 IN3 (in), 4 IN4, 5 IN5, 6 IN6, 7 IN7, 8 IN8, 9 GND (power), 10 COM (power), 11 OUT8, 12 OUT7, 13 OUT6 (out), 14 OUT5 (out), 15 OUT4 (out), 16 OUT3 (out), 17 OUT2 (out), 18 OUT1 (out)

## USBLC6-2
designator U?
footprint SOT23-6L
pins: 1 IO1, 2 GND, 3 IO2, 4 IO2, 5 Vbus, 6 IO1

## UV-LED
designator LED?
LED紫外线灯; Brightness: 12.5 mcd; Peak Wave Length: 565 nm; Category: LED; Color: N/A; Mounting Technology: Surface Mount; Status: Production
footprint LED5730
pins: 1 A, 2 K

## VL162
designator U?
footprint QFN40P350X450X85_HS-29N (QFN, 28-Leads, Body 3.50x4.50mm, Pitch 0.40mm, Thermal Pad 2.00x3.00mm, IPC Medium Density)
pins: 1 CC1, 2 TX1_P, 3 TX1_N, 4 TX2_N, 5 TX2_P, 6 RX1_P, 7 RX1_N, 8 RX2_N, 9 RX2_P, 10 REXT, 11 Vconn_OC, 12 Vconn_UVLO, 13 Vconn_Mode, 14 ICC_IND1, 15 ICC_IND0, 16 ATTACH, 17 RX_N, 18 RX_P, 19 GND, 20 TXN, 21 TXP, 22 ORI_STATUS, 23 CCLOAD1, 24 CCLOAD0, 25 CE, 26 VCC5V, 27 Vconn_5Vin, 28 CC2, 29 PAD

## VL822-QFN76
designator U?
footprint QFN40P900X900X85_HS-77N (QFN, 76-Leads, Body 9.00x9.00mm, Pitch 0.40mm, Thermal Pad 6.30x6.30mm, IPC Medium Density)
pins: 1 USBOC1, 2 USBPE1, 3 SSTX1+, 4 SSRX1-, 5 VCC10I, 6 SSRX1+, 7 SSRX1-, 8 VCC10I, 9 HSD1+, 10 HSD1-, 11 VDD, 12 SSTX2+, 13 SSTX2-, 14 VCC10I, 15 SSRX2+, 16 SSRX2-, 17 VCC33I, 18 HSD2+, 19 HSD2-, 20 USBOC3, 21 USBPE3, 22 HSD3+, 23 HSD3-, 24 VCC33I, 25 SSTX3+, 26 SSTX3-, 27 VCC10I, 28 SSRX3+, 29 SSRX3-, 30 VDD, 31 SSTX4+, 32 SSTX4-, 33 VCC10I, 34 SSRX4+, 35 SSRX4-, 36 VCC10I, 37 HSD4+, 38 HSD4-, 39 USBPE4, 40 USBOC4, 41 USBOC0, 42 USBPE0, 43 VBUSDET0, 44 USB3XO, 45 USB3XI, 46 VCC33I, 47 REXT, 48 VDD, 49 SSTX0-, 50 SSTX0+, 51 VCC10I, 52 SSRX0-, 53 SSRX0+, 54 VCC10I, 55 HSD0+, 56 HSD0-, 57 GPIO0/HID0, 58 GPIO1/HID1, 59 GPIO2/HID2, 60 GPIO3/HID3, 61 GPIO4/HID4, 62 VCC33I, 63 GPIO5/EXTPWRON/WAKE, 64 GPIO6/USBSUS, 65 GPIO7/SMDAT, 66 GPIO8/SMCLK, 67 VDD, 68 RESET#, 69 USBLED1/SPISI, 70 USBLED2/SPICLK, 71 USBLED3/SPISO, 72 USBLED4/SPICS, 73 VCC33I, 74 TESTEN, 75 USBOC2, 76 USBPE2, 77 PAD